# Altium integrated library SystemOnChip_001.IntLib: 5 symbols
Pins are listed as number, name and electrical type; pins without a type are passive.

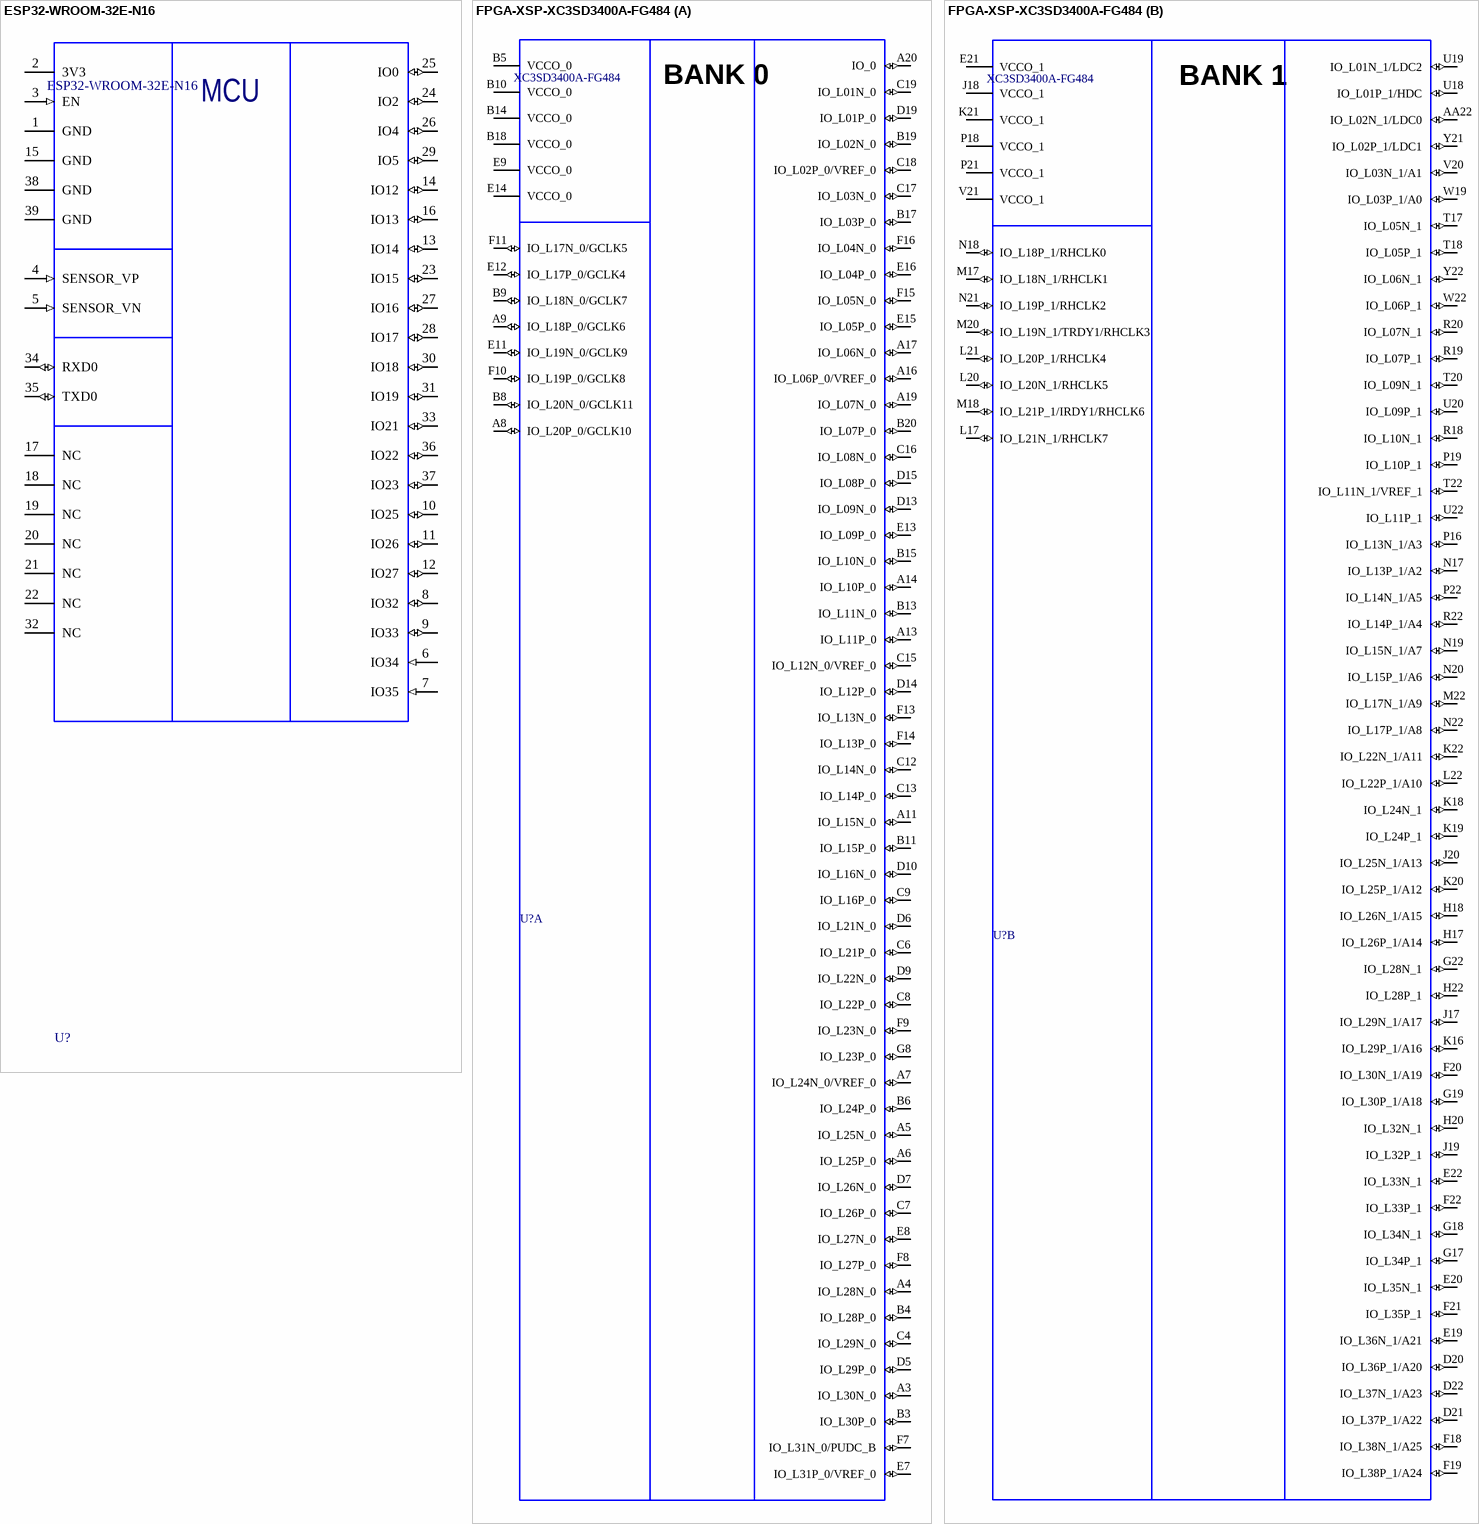
[diagram p0: symbols ESP32-WROOM-32E-N16 to FPGA-XSP-XC3SD3400A-FG484]

## ESP32-WROOM-32E-N16
designator U?
ComponentLink1Description: Manufacturer; ComponentLink2Description: Datasheet; ComponentLink3Description: Pin-out table; Family: Chip; ComponentLink1URL: *; ComponentLink2URL: *; ComponentLink3URL: http://www.xilinx.com/support/documentation/data_sheets/ds610.pdf; Value: ESP32-WROOM-32E-N16; PartNumber: *; Vender: *; ProductCode: *; StandartDoc: *; ВП Описание: *; Наименование: *; Описание: *
footprint ESP32-WROOM_woANT
pins: 1 GND (power), 2 3V3 (power), 3 EN (in), 4 SENSOR_VP (in), 5 SENSOR_VN (in), 6 IO34 (in), 7 IO35 (in), 8 IO32 (io), 9 IO33 (io), 10 IO25 (io), 11 IO26 (io), 12 IO27 (io), 13 IO14 (io), 14 IO12 (io), 15 GND (power), 16 IO13 (io), 17 NC, 18 NC, 19 NC, 20 NC, 21 NC, 22 NC, 23 IO15 (io), 24 IO2 (io), 25 IO0 (io), 26 IO4 (io), 27 IO16 (io), 28 IO17 (io), 29 IO5 (io), 30 IO18 (io), 31 IO19 (io), 32 NC, 33 IO21 (io), 34 RXD0 (io), 35 TXD0 (io), 36 IO22 (io), 37 IO23 (io), 38 GND (power), 39 GND (power)
text: MCU

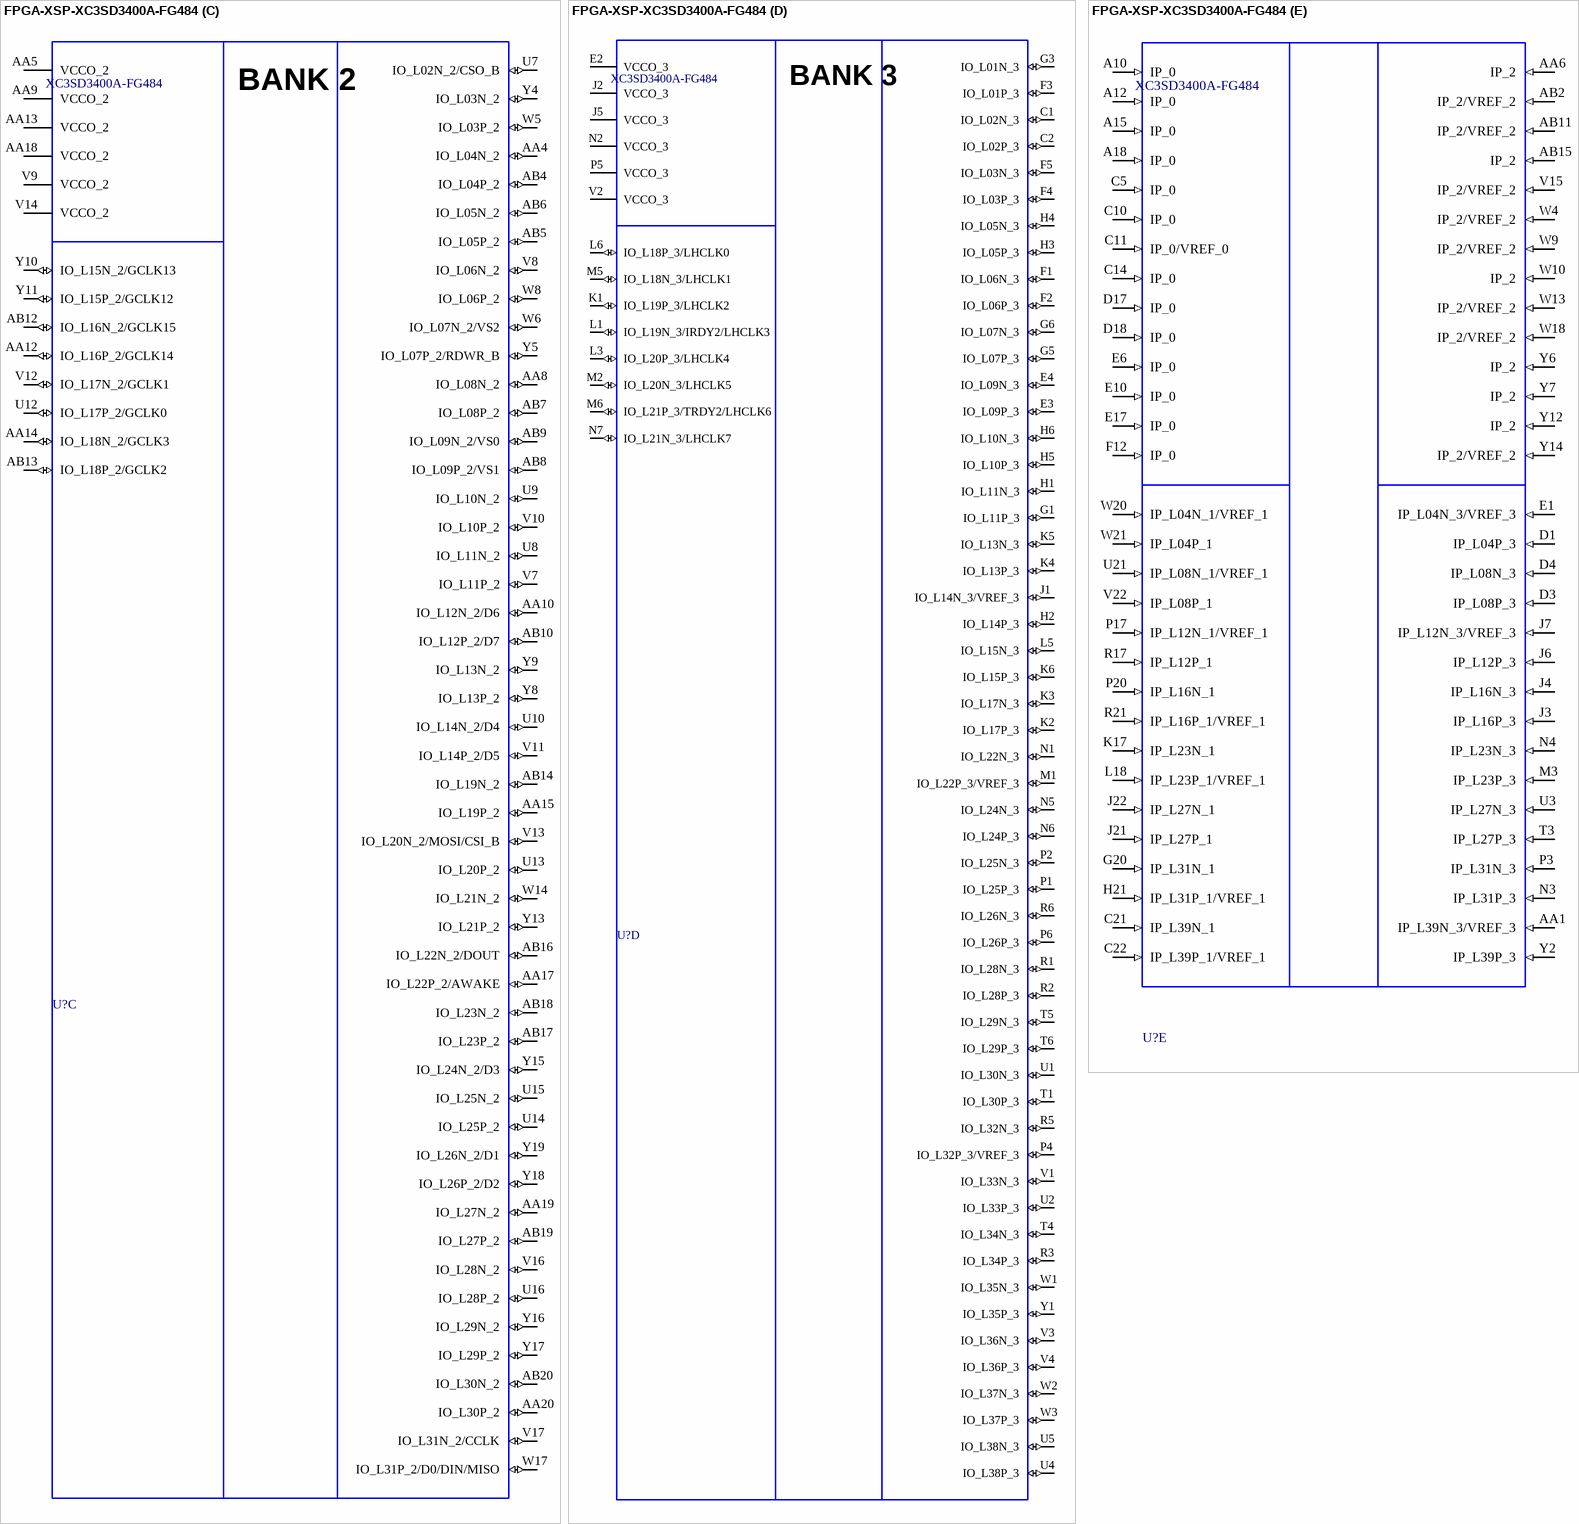
[diagram p1: symbol FPGA-XSP-XC3SD3400A-FG484]

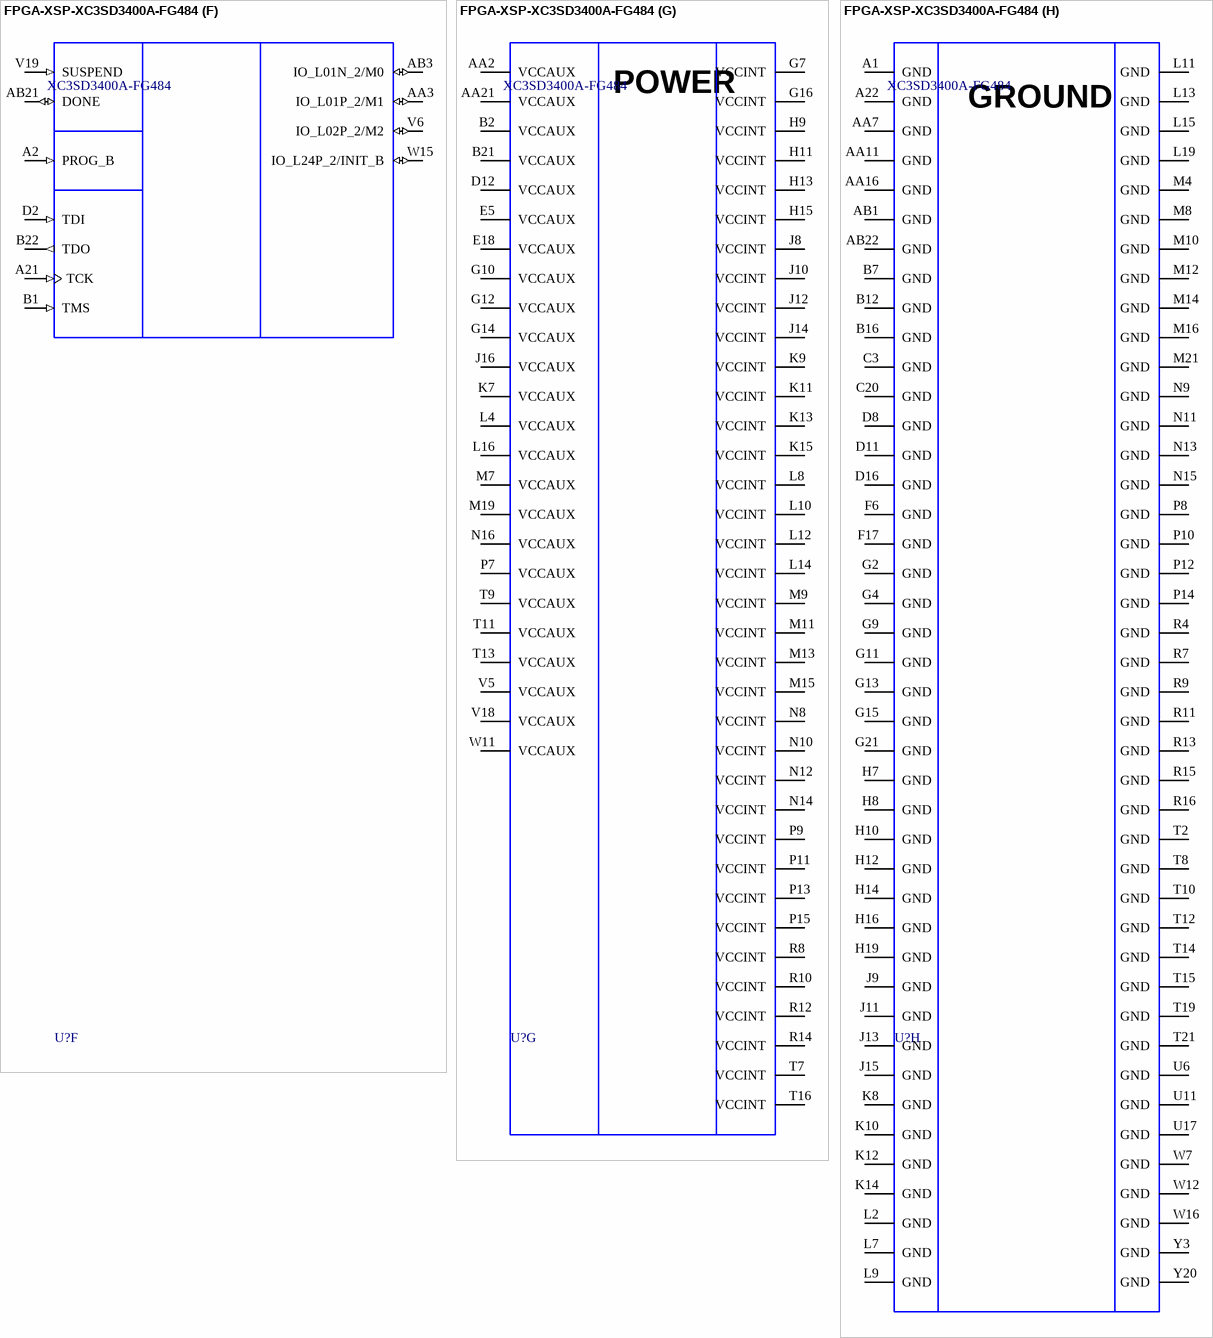
[diagram p2: symbol FPGA-XSP-XC3SD3400A-FG484]

## FPGA-XSP-XC3SD3400A-FG484
designator U?, comment XC3SD3400A-FG484
Spartan-3A DSP FPGA, 309 User I/Os, 484-Pin FBGA, Standard Performance, Industrial Grade; Manufacturer: Xilinx; Part: XC3SD3400A-4CSG484C; ComponentLink1Description: Manufacturer; ComponentLink2Description: Datasheet; ComponentLink3Description: Pin-out table; Family: Chip; ComponentLink1URL: *; ComponentLink2URL: *; ComponentLink3URL: http://www.xilinx.com/support/documentation/data_sheets/ds610.pdf; Manufacturer P/N: XC3SD3400A-4CSG484C; Value: XC3SD3400A-FG484; PartNumber: *; Vender: *; ProductCode: *; StandartDoc: *; ВП Описание: *; Наименование: *; Описание: *
footprint CS484 (BGA, 484-Leads, Body 19x19mm, Pitch 0.8mm)
part A pins: A3 IO_L30N_0 (io), A4 IO_L28N_0 (io), A5 IO_L25N_0 (io), A6 IO_L25P_0 (io), A7 IO_L24N_0/VREF_0 (io), A8 IO_L20P_0/GCLK10 (io), A9 IO_L18P_0/GCLK6 (io), A11 IO_L15N_0 (io), A13 IO_L11P_0 (io), A14 IO_L10P_0 (io), A16 IO_L06P_0/VREF_0 (io), A17 IO_L06N_0 (io), A19 IO_L07N_0 (io), A20 IO_0 (io), B3 IO_L30P_0 (io), B4 IO_L28P_0 (io), B5 VCCO_0 (power), B6 IO_L24P_0 (io), B8 IO_L20N_0/GCLK11 (io), B9 IO_L18N_0/GCLK7 (io), B10 VCCO_0 (power), B11 IO_L15P_0 (io), B13 IO_L11N_0 (io), B14 VCCO_0 (power), B15 IO_L10N_0 (io), B17 IO_L03P_0 (io), B18 VCCO_0 (power), B19 IO_L02N_0 (io), B20 IO_L07P_0 (io), C4 IO_L29N_0 (io), C6 IO_L21P_0 (io), C7 IO_L26P_0 (io), C8 IO_L22P_0 (io), C9 IO_L16P_0 (io), C12 IO_L14N_0 (io), C13 IO_L14P_0 (io), C15 IO_L12N_0/VREF_0 (io), C16 IO_L08N_0 (io), C17 IO_L03N_0 (io), C18 IO_L02P_0/VREF_0 (io), C19 IO_L01N_0 (io), D5 IO_L29P_0 (io), D6 IO_L21N_0 (io), D7 IO_L26N_0 (io), D9 IO_L22N_0 (io), D10 IO_L16N_0 (io), D13 IO_L09N_0 (io), D14 IO_L12P_0 (io), D15 IO_L08P_0 (io), D19 IO_L01P_0 (io), E7 IO_L31P_0/VREF_0 (io), E8 IO_L27N_0 (io), E9 VCCO_0 (power), E11 IO_L19N_0/GCLK9 (io), E12 IO_L17P_0/GCLK4 (io), E13 IO_L09P_0 (io), E14 VCCO_0 (power), E15 IO_L05P_0 (io), E16 IO_L04P_0 (io), F7 IO_L31N_0/PUDC_B (io), F8 IO_L27P_0 (io), F9 IO_L23N_0 (io), F10 IO_L19P_0/GCLK8 (io), F11 IO_L17N_0/GCLK5 (io), F13 IO_L13N_0 (io), F14 IO_L13P_0 (io), F15 IO_L05N_0 (io), F16 IO_L04N_0 (io), G8 IO_L23P_0 (io)
part B pins: AA22 IO_L02N_1/LDC0 (io), D20 IO_L36P_1/A20 (io), D21 IO_L37P_1/A22 (io), D22 IO_L37N_1/A23 (io), E19 IO_L36N_1/A21 (io), E20 IO_L35N_1 (io), E21 VCCO_1 (power), E22 IO_L33N_1 (io), F18 IO_L38N_1/A25 (io), F19 IO_L38P_1/A24 (io), F20 IO_L30N_1/A19 (io), F21 IO_L35P_1 (io), F22 IO_L33P_1 (io), G17 IO_L34P_1 (io), G18 IO_L34N_1 (io), G19 IO_L30P_1/A18 (io), G22 IO_L28N_1 (io), H17 IO_L26P_1/A14 (io), H18 IO_L26N_1/A15 (io), H20 IO_L32N_1 (io), H22 IO_L28P_1 (io), J17 IO_L29N_1/A17 (io), J18 VCCO_1 (power), J19 IO_L32P_1 (io), J20 IO_L25N_1/A13 (io), K16 IO_L29P_1/A16 (io), K18 IO_L24N_1 (io), K19 IO_L24P_1 (io), K20 IO_L25P_1/A12 (io), K21 VCCO_1 (power), K22 IO_L22N_1/A11 (io), L17 IO_L21N_1/RHCLK7 (io), L20 IO_L20N_1/RHCLK5 (io), L21 IO_L20P_1/RHCLK4 (io), L22 IO_L22P_1/A10 (io), M17 IO_L18N_1/RHCLK1 (io), M18 IO_L21P_1/IRDY1/RHCLK6 (io), M20 IO_L19N_1/TRDY1/RHCLK3 (io), M22 IO_L17N_1/A9 (io), N17 IO_L13P_1/A2 (io), N18 IO_L18P_1/RHCLK0 (io), N19 IO_L15N_1/A7 (io), N20 IO_L15P_1/A6 (io), N21 IO_L19P_1/RHCLK2 (io), N22 IO_L17P_1/A8 (io), P16 IO_L13N_1/A3 (io), P18 VCCO_1 (power), P19 IO_L10P_1 (io), P21 VCCO_1 (power), P22 IO_L14N_1/A5 (io), R18 IO_L10N_1 (io), R19 IO_L07P_1 (io), R20 IO_L07N_1 (io), R22 IO_L14P_1/A4 (io), T17 IO_L05N_1 (io), T18 IO_L05P_1 (io), T20 IO_L09N_1 (io), T22 IO_L11N_1/VREF_1 (io), U18 IO_L01P_1/HDC (io), U19 IO_L01N_1/LDC2 (io), U20 IO_L09P_1 (io), U22 IO_L11P_1 (io), V20 IO_L03N_1/A1 (io), V21 VCCO_1 (power), W19 IO_L03P_1/A0 (io), W22 IO_L06P_1 (io), Y21 IO_L02P_1/LDC1 (io), Y22 IO_L06N_1 (io)
part C pins: AA4 IO_L04N_2 (io), AA5 VCCO_2 (power), AA8 IO_L08N_2 (io), AA9 VCCO_2 (power), AA10 IO_L12N_2/D6 (io), AA12 IO_L16P_2/GCLK14 (io), AA13 VCCO_2 (power), AA14 IO_L18N_2/GCLK3 (io), AA15 IO_L19P_2 (io), AA17 IO_L22P_2/AWAKE (io), AA18 VCCO_2 (power), AA19 IO_L27N_2 (io), AA20 IO_L30P_2 (io), AB4 IO_L04P_2 (io), AB5 IO_L05P_2 (io), AB6 IO_L05N_2 (io), AB7 IO_L08P_2 (io), AB8 IO_L09P_2/VS1 (io), AB9 IO_L09N_2/VS0 (io), AB10 IO_L12P_2/D7 (io), AB12 IO_L16N_2/GCLK15 (io), AB13 IO_L18P_2/GCLK2 (io), AB14 IO_L19N_2 (io), AB16 IO_L22N_2/DOUT (io), AB17 IO_L23P_2 (io), AB18 IO_L23N_2 (io), AB19 IO_L27P_2 (io), AB20 IO_L30N_2 (io), U7 IO_L02N_2/CSO_B (io), U8 IO_L11N_2 (io), U9 IO_L10N_2 (io), U10 IO_L14N_2/D4 (io), U12 IO_L17P_2/GCLK0 (io), U13 IO_L20P_2 (io), U14 IO_L25P_2 (io), U15 IO_L25N_2 (io), U16 IO_L28P_2 (io), V7 IO_L11P_2 (io), V8 IO_L06N_2 (io), V9 VCCO_2 (power), V10 IO_L10P_2 (io), V11 IO_L14P_2/D5 (io), V12 IO_L17N_2/GCLK1 (io), V13 IO_L20N_2/MOSI/CSI_B (io), V14 VCCO_2 (power), V16 IO_L28N_2 (io), V17 IO_L31N_2/CCLK (io), W5 IO_L03P_2 (io), W6 IO_L07N_2/VS2 (io), W8 IO_L06P_2 (io), W14 IO_L21N_2 (io), W17 IO_L31P_2/D0/DIN/MISO (io), Y4 IO_L03N_2 (io), Y5 IO_L07P_2/RDWR_B (io), Y8 IO_L13P_2 (io), Y9 IO_L13N_2 (io), Y10 IO_L15N_2/GCLK13 (io), Y11 IO_L15P_2/GCLK12 (io), Y13 IO_L21P_2 (io), Y15 IO_L24N_2/D3 (io), Y16 IO_L29N_2 (io), Y17 IO_L29P_2 (io), Y18 IO_L26P_2/D2 (io), Y19 IO_L26N_2/D1 (io)
part D pins: C1 IO_L02N_3 (io), C2 IO_L02P_3 (io), E2 VCCO_3 (power), E3 IO_L09P_3 (io), E4 IO_L09N_3 (io), F1 IO_L06N_3 (io), F2 IO_L06P_3 (io), F3 IO_L01P_3 (io), F4 IO_L03P_3 (io), F5 IO_L03N_3 (io), G1 IO_L11P_3 (io), G3 IO_L01N_3 (io), G5 IO_L07P_3 (io), G6 IO_L07N_3 (io), H1 IO_L11N_3 (io), H2 IO_L14P_3 (io), H3 IO_L05P_3 (io), H4 IO_L05N_3 (io), H5 IO_L10P_3 (io), H6 IO_L10N_3 (io), J1 IO_L14N_3/VREF_3 (io), J2 VCCO_3 (power), J5 VCCO_3 (power), K1 IO_L19P_3/LHCLK2 (io), K2 IO_L17P_3 (io), K3 IO_L17N_3 (io), K4 IO_L13P_3 (io), K5 IO_L13N_3 (io), K6 IO_L15P_3 (io), L1 IO_L19N_3/IRDY2/LHCLK3 (io), L3 IO_L20P_3/LHCLK4 (io), L5 IO_L15N_3 (io), L6 IO_L18P_3/LHCLK0 (io), M1 IO_L22P_3/VREF_3 (io), M2 IO_L20N_3/LHCLK5 (io), M5 IO_L18N_3/LHCLK1 (io), M6 IO_L21P_3/TRDY2/LHCLK6 (io), N1 IO_L22N_3 (io), N2 VCCO_3 (power), N5 IO_L24N_3 (io), N6 IO_L24P_3 (io), N7 IO_L21N_3/LHCLK7 (io), P1 IO_L25P_3 (io), P2 IO_L25N_3 (io), P4 IO_L32P_3/VREF_3 (io), P5 VCCO_3 (power), P6 IO_L26P_3 (io), R1 IO_L28N_3 (io), R2 IO_L28P_3 (io), R3 IO_L34P_3 (io), R5 IO_L32N_3 (io), R6 IO_L26N_3 (io), T1 IO_L30P_3 (io), T4 IO_L34N_3 (io), T5 IO_L29N_3 (io), T6 IO_L29P_3 (io), U1 IO_L30N_3 (io), U2 IO_L33P_3 (io), U4 IO_L38P_3 (io), U5 IO_L38N_3 (io), V1 IO_L33N_3 (io), V2 VCCO_3 (power), V3 IO_L36N_3 (io), V4 IO_L36P_3 (io), W1 IO_L35N_3 (io), W2 IO_L37N_3 (io), W3 IO_L37P_3 (io), Y1 IO_L35P_3 (io)
part E pins: A10 IP_0 (in), A12 IP_0 (in), A15 IP_0 (in), A18 IP_0 (in), AA1 IP_L39N_3/VREF_3 (in), AA6 IP_2 (in), AB2 IP_2/VREF_2 (in), AB11 IP_2/VREF_2 (in), AB15 IP_2 (in), C5 IP_0 (in), C10 IP_0 (in), C11 IP_0/VREF_0 (in), C14 IP_0 (in), C21 IP_L39N_1 (in), C22 IP_L39P_1/VREF_1 (in), D1 IP_L04P_3 (in), D3 IP_L08P_3 (in), D4 IP_L08N_3 (in), D17 IP_0 (in), D18 IP_0 (in), E1 IP_L04N_3/VREF_3 (in), E6 IP_0 (in), E10 IP_0 (in), E17 IP_0 (in), F12 IP_0 (in), G20 IP_L31N_1 (in), H21 IP_L31P_1/VREF_1 (in), J3 IP_L16P_3 (in), J4 IP_L16N_3 (in), J6 IP_L12P_3 (in), J7 IP_L12N_3/VREF_3 (in), J21 IP_L27P_1 (in), J22 IP_L27N_1 (in), K17 IP_L23N_1 (in), L18 IP_L23P_1/VREF_1 (in), M3 IP_L23P_3 (in), N3 IP_L31P_3 (in), N4 IP_L23N_3 (in), P3 IP_L31N_3 (in), P17 IP_L12N_1/VREF_1 (in), P20 IP_L16N_1 (in), R17 IP_L12P_1 (in), R21 IP_L16P_1/VREF_1 (in), T3 IP_L27P_3 (in), U3 IP_L27N_3 (in), U21 IP_L08N_1/VREF_1 (in), V15 IP_2/VREF_2 (in), V22 IP_L08P_1 (in), W4 IP_2/VREF_2 (in), W9 IP_2/VREF_2 (in), W10 IP_2 (in), W13 IP_2/VREF_2 (in), W18 IP_2/VREF_2 (in), W20 IP_L04N_1/VREF_1 (in), W21 IP_L04P_1 (in), Y2 IP_L39P_3 (in), Y6 IP_2 (in), Y7 IP_2 (in), Y12 IP_2 (in), Y14 IP_2/VREF_2 (in)
part F pins: A2 PROG_B (in), A21 TCK (in), AA3 IO_L01P_2/M1 (io), AB3 IO_L01N_2/M0 (io), AB21 DONE (io), B1 TMS (in), B22 TDO (out), D2 TDI (in), V6 IO_L02P_2/M2 (io), V19 SUSPEND (in), W15 IO_L24P_2/INIT_B (io)
part G pins: AA2 VCCAUX (power), AA21 VCCAUX (power), B2 VCCAUX (power), B21 VCCAUX (power), D12 VCCAUX (power), E5 VCCAUX (power), E18 VCCAUX (power), G7 VCCINT (power), G10 VCCAUX (power), G12 VCCAUX (power), G14 VCCAUX (power), G16 VCCINT (power), H9 VCCINT (power), H11 VCCINT (power), H13 VCCINT (power), H15 VCCINT (power), J8 VCCINT (power), J10 VCCINT (power), J12 VCCINT (power), J14 VCCINT (power), J16 VCCAUX (power), K7 VCCAUX (power), K9 VCCINT (power), K11 VCCINT (power), K13 VCCINT (power), K15 VCCINT (power), L4 VCCAUX (power), L8 VCCINT (power), L10 VCCINT (power), L12 VCCINT (power), L14 VCCINT (power), L16 VCCAUX (power), M7 VCCAUX (power), M9 VCCINT (power), M11 VCCINT (power), M13 VCCINT (power), M15 VCCINT (power), M19 VCCAUX (power), N8 VCCINT (power), N10 VCCINT (power), N12 VCCINT (power), N14 VCCINT (power), N16 VCCAUX (power), P7 VCCAUX (power), P9 VCCINT (power), P11 VCCINT (power), P13 VCCINT (power), P15 VCCINT (power), R8 VCCINT (power), R10 VCCINT (power), R12 VCCINT (power), R14 VCCINT (power), T7 VCCINT (power), T9 VCCAUX (power), T11 VCCAUX (power), T13 VCCAUX (power), T16 VCCINT (power), V5 VCCAUX (power), V18 VCCAUX (power), W11 VCCAUX (power)
part H pins: A1 GND (power), A22 GND (power), AA7 GND (power), AA11 GND (power), AA16 GND (power), AB1 GND (power), AB22 GND (power), B7 GND (power), B12 GND (power), B16 GND (power), C3 GND (power), C20 GND (power), D8 GND (power), D11 GND (power), D16 GND (power), F6 GND (power), F17 GND (power), G2 GND (power), G4 GND (power), G9 GND (power), G11 GND (power), G13 GND (power), G15 GND (power), G21 GND (power), H7 GND (power), H8 GND (power), H10 GND (power), H12 GND (power), H14 GND (power), H16 GND (power), H19 GND (power), J9 GND (power), J11 GND (power), J13 GND (power), J15 GND (power), K8 GND (power), K10 GND (power), K12 GND (power), K14 GND (power), L2 GND (power), L7 GND (power), L9 GND (power), L11 GND (power), L13 GND (power), L15 GND (power), L19 GND (power), M4 GND (power), M8 GND (power), M10 GND (power), M12 GND (power), M14 GND (power), M16 GND (power), M21 GND (power), N9 GND (power), N11 GND (power), N13 GND (power), N15 GND (power), P8 GND (power), P10 GND (power), P12 GND (power), P14 GND (power), R4 GND (power), R7 GND (power), R9 GND (power), R11 GND (power), R13 GND (power), R15 GND (power), R16 GND (power), T2 GND (power), T8 GND (power), T10 GND (power), T12 GND (power), T14 GND (power), T15 GND (power), T19 GND (power), T21 GND (power), U6 GND (power), U11 GND (power), U17 GND (power), W7 GND (power), W12 GND (power), W16 GND (power), Y3 GND (power), Y20 GND (power)
part A text: BANK 0
part B text: BANK 1
part C text: BANK 2
part D text: BANK 3
part G text: POWER
part H text: GROUND

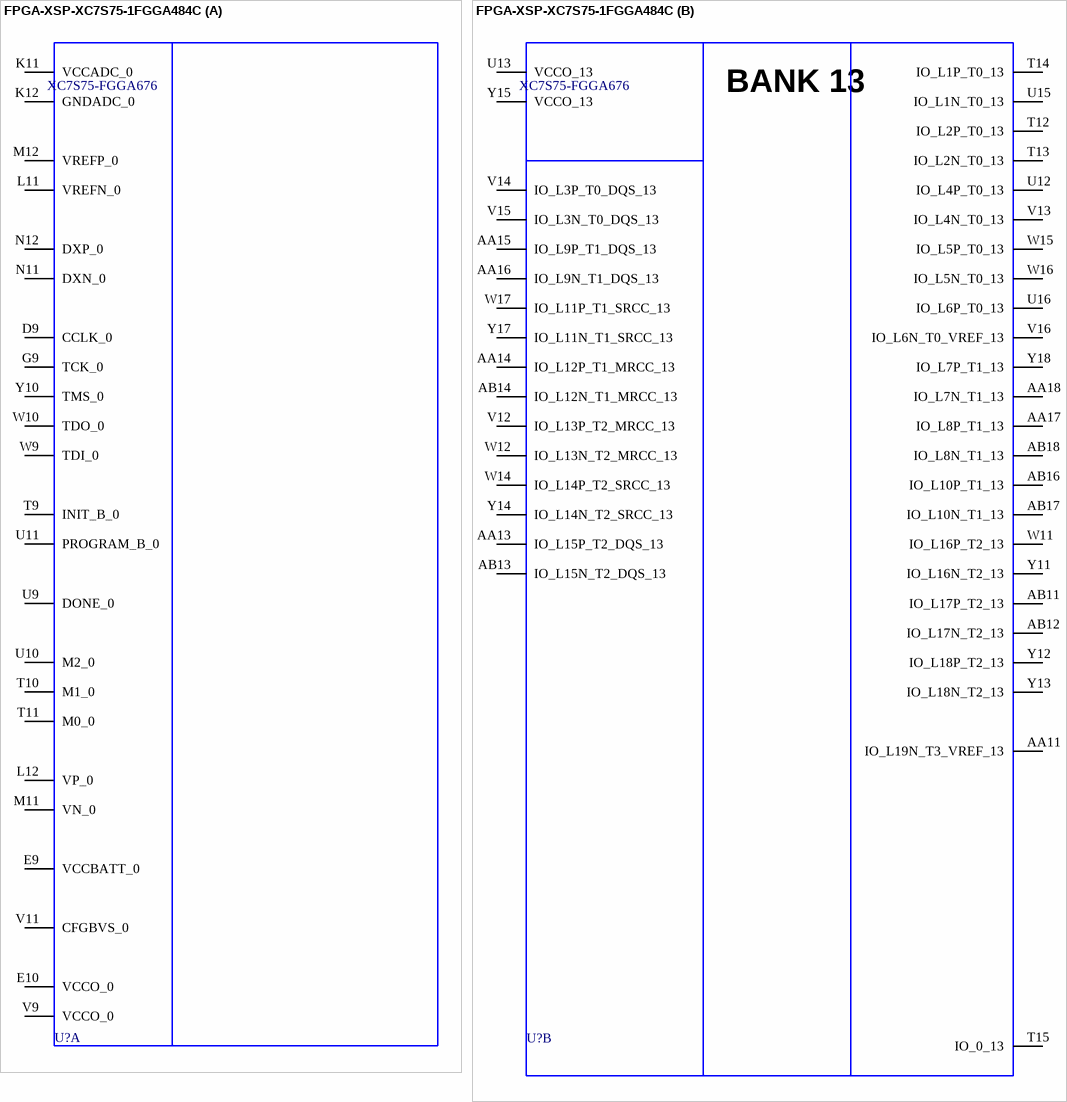
[diagram p3: symbol FPGA-XSP-XC7S75-1FGGA484C]

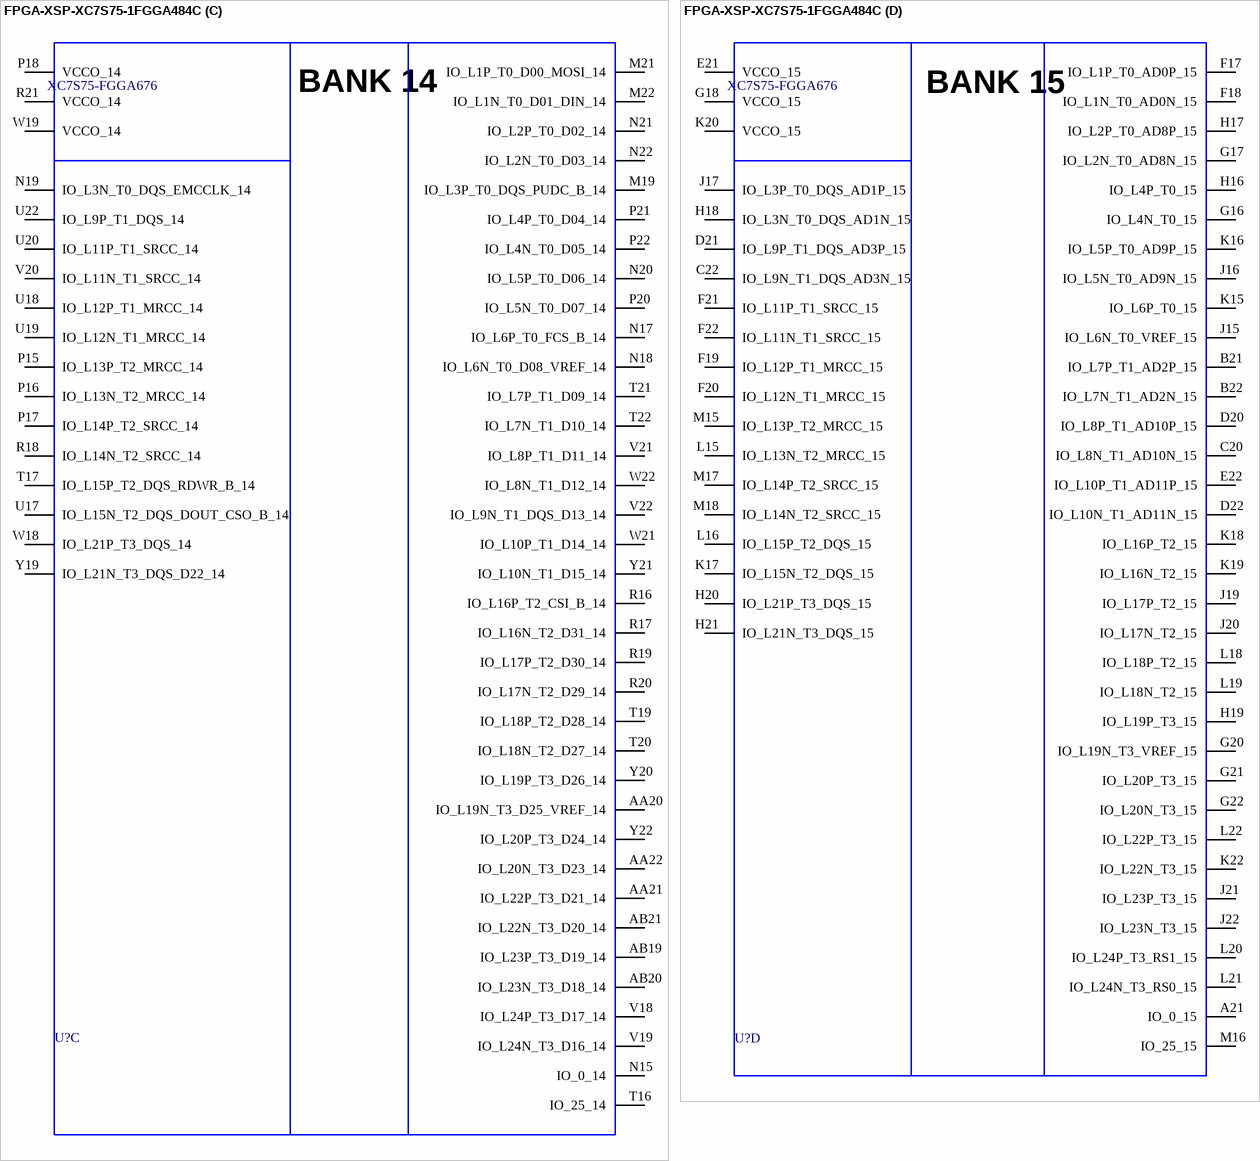
[diagram p4: symbol FPGA-XSP-XC7S75-1FGGA484C]

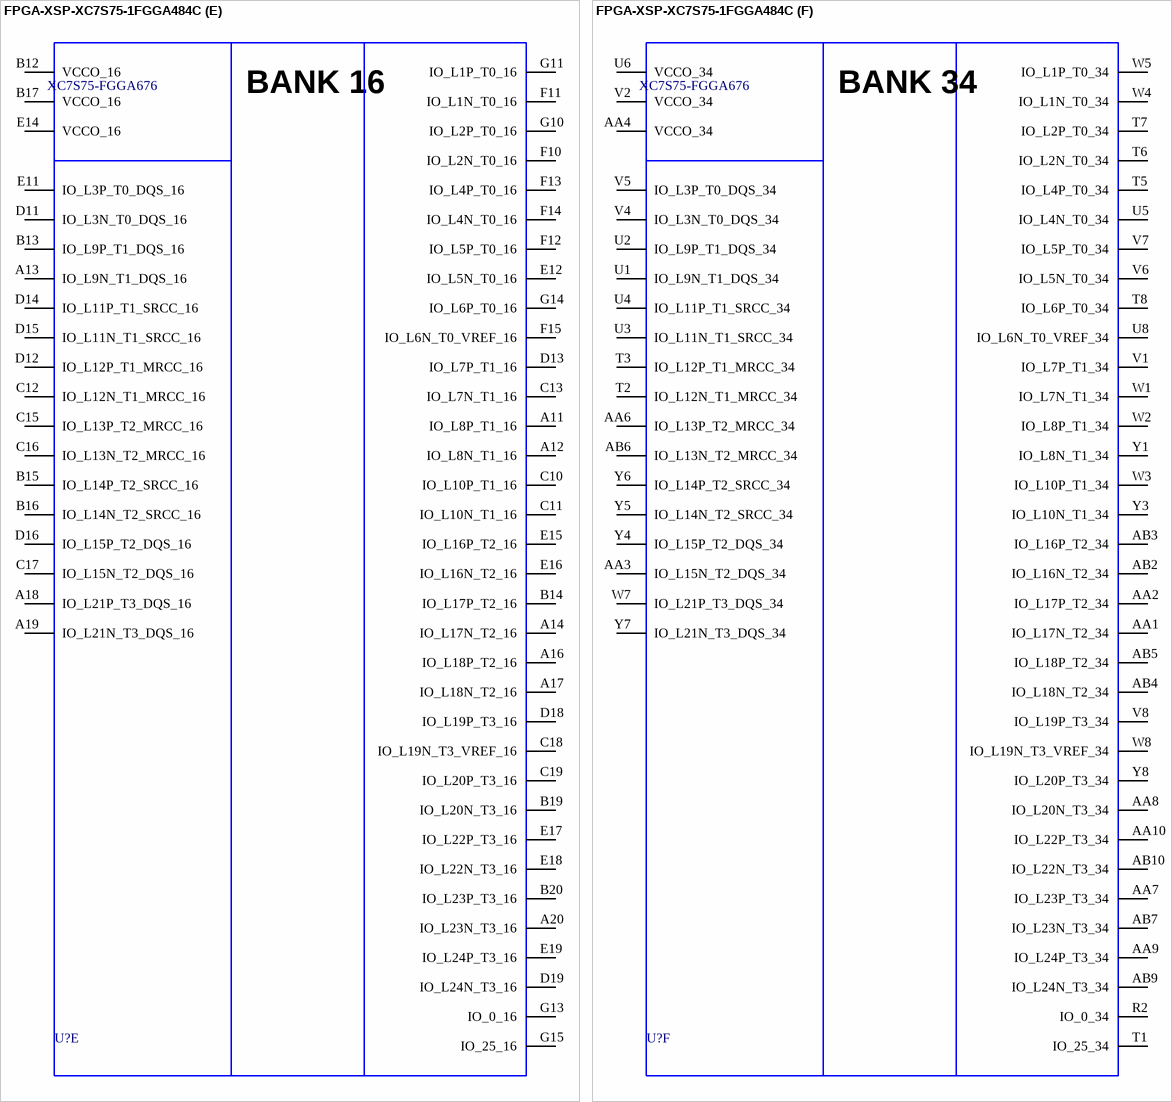
[diagram p5: symbol FPGA-XSP-XC7S75-1FGGA484C]

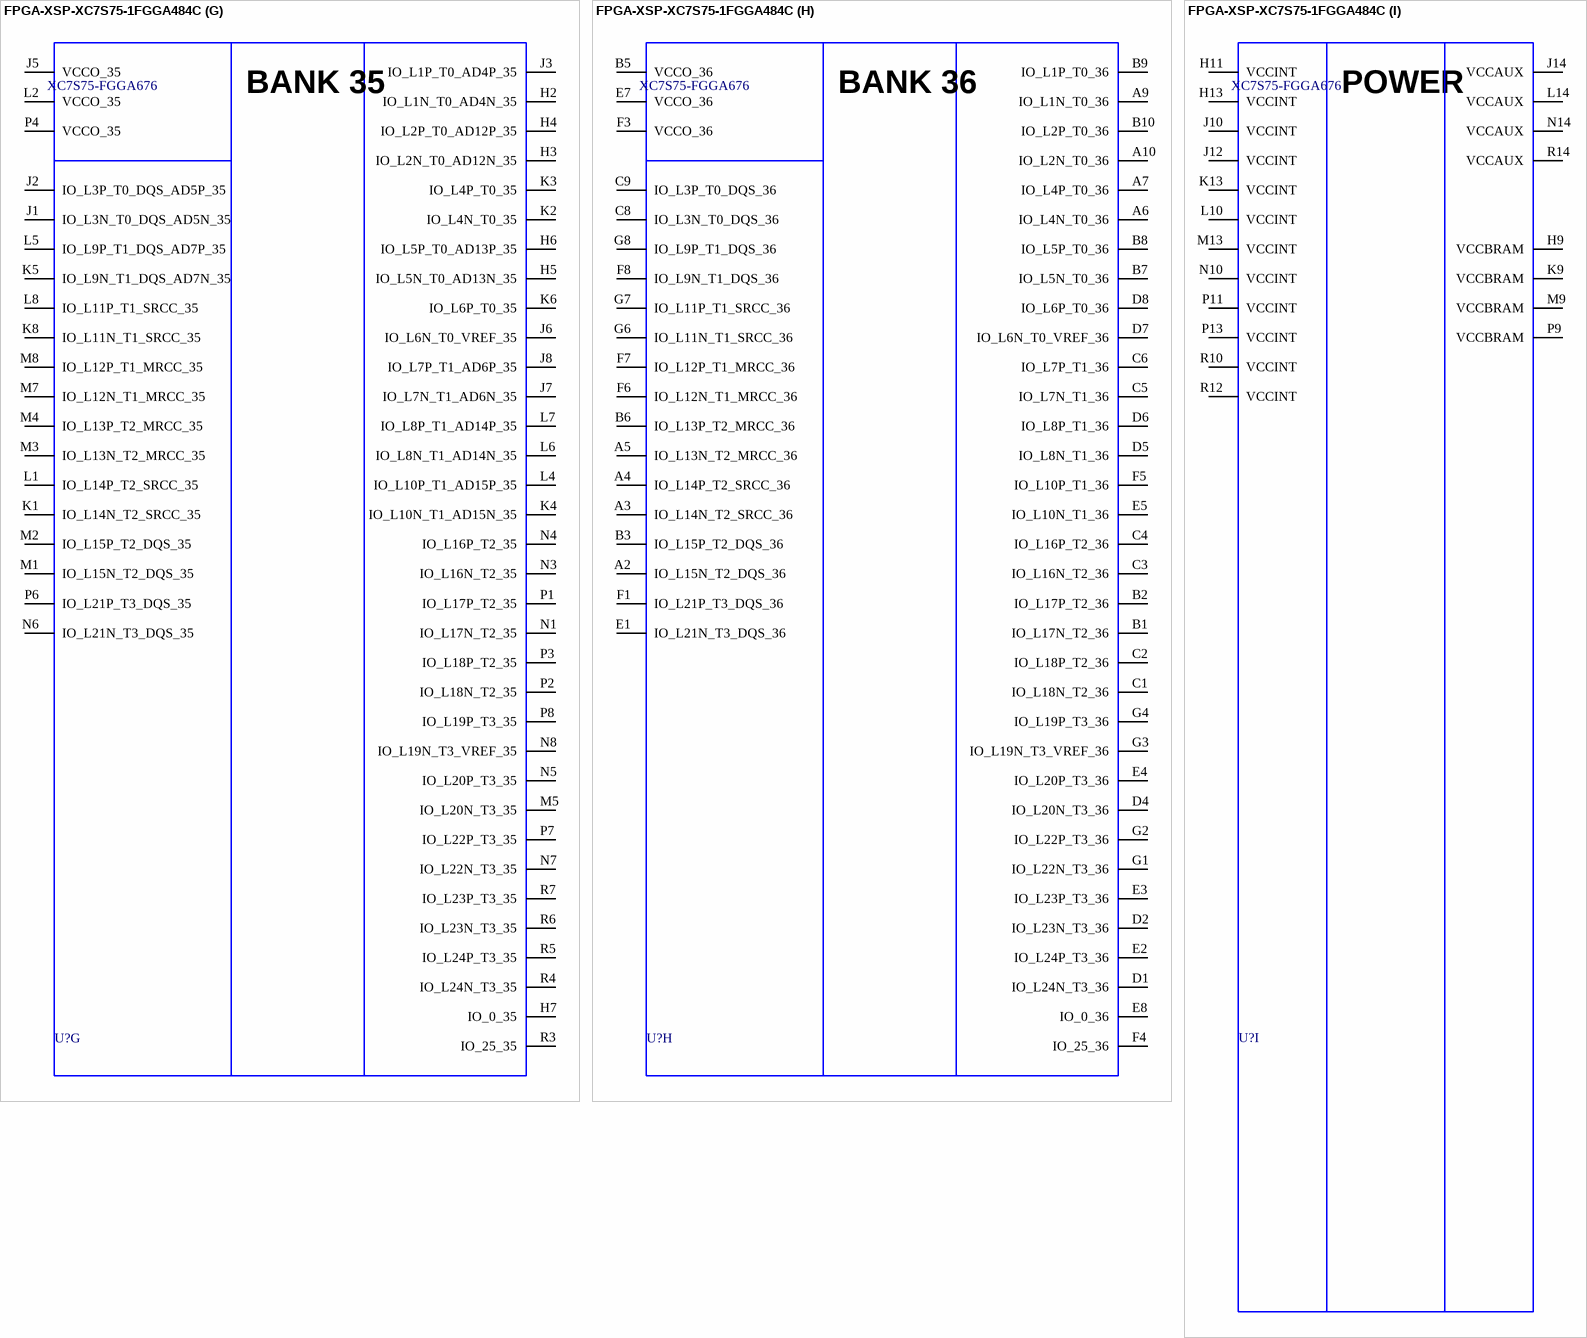
[diagram p6: symbol FPGA-XSP-XC7S75-1FGGA484C]

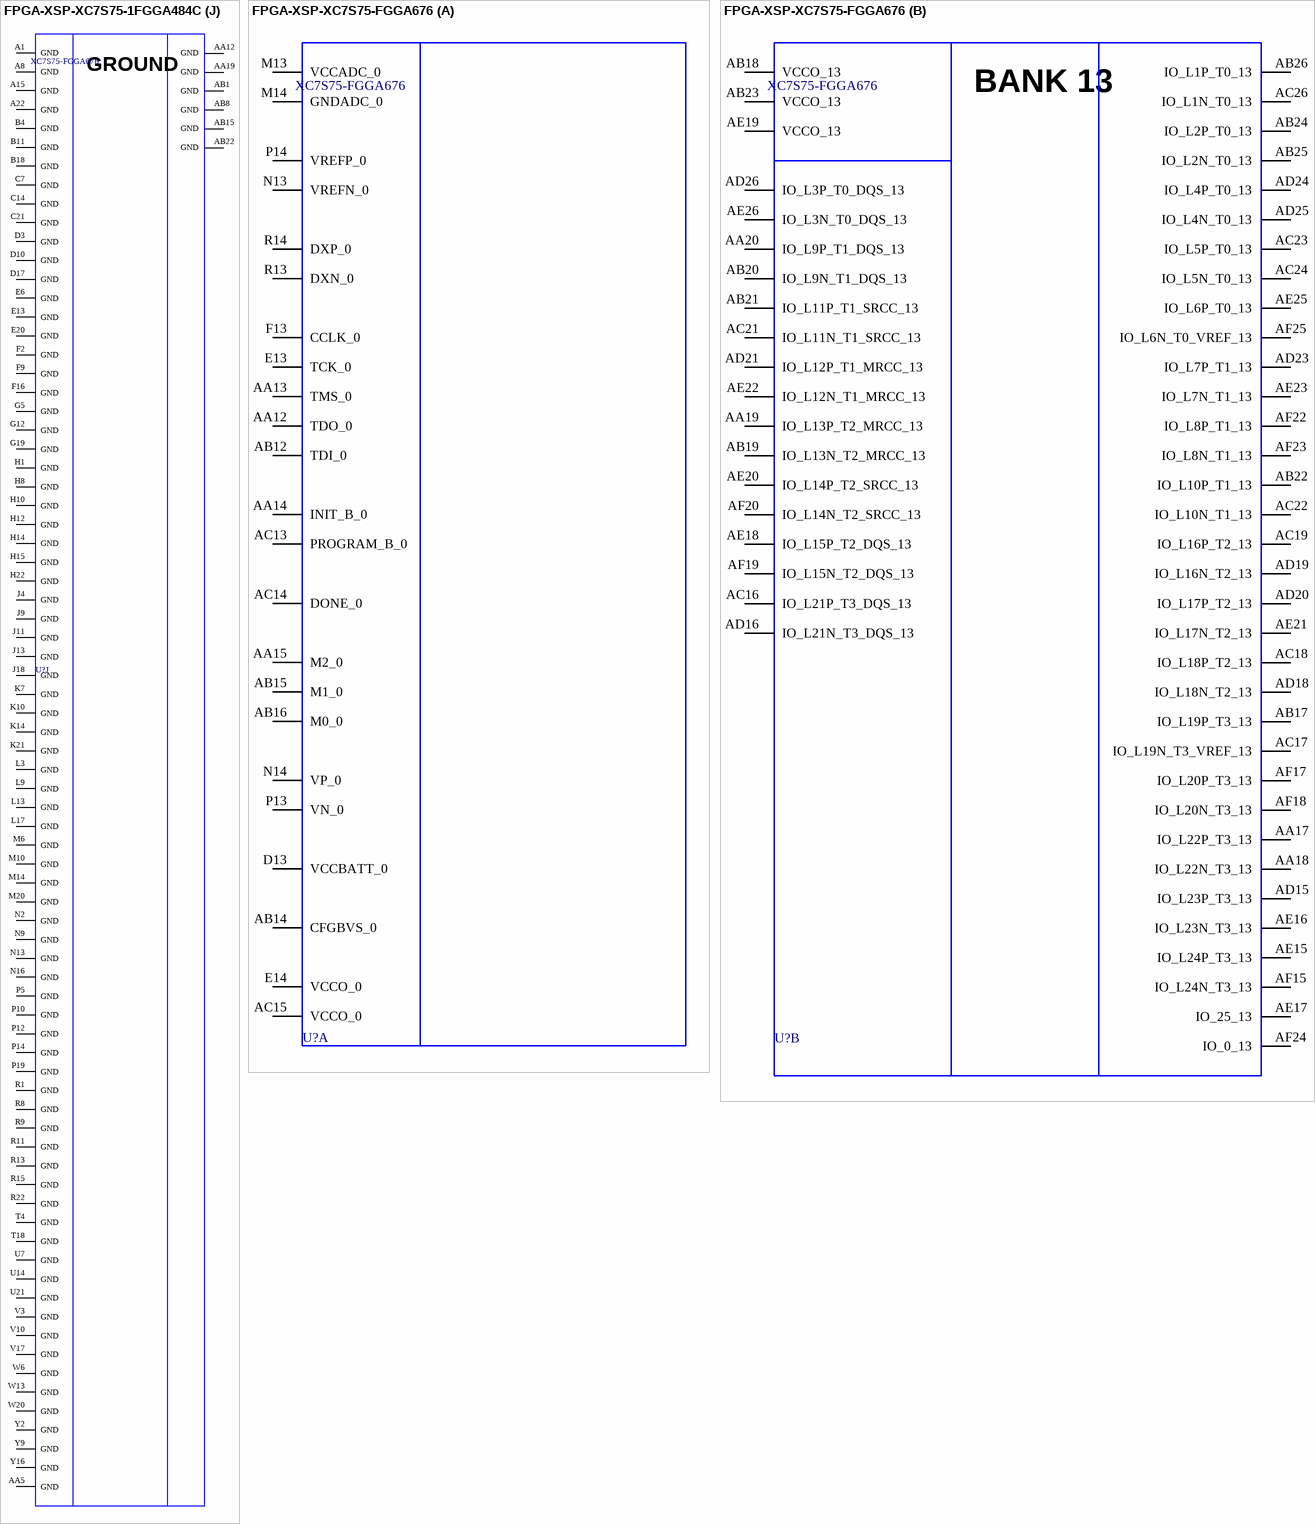
[diagram p7: symbols FPGA-XSP-XC7S75-1FGGA484C to FPGA-XSP-XC7S75-FGGA676]

## FPGA-XSP-XC7S75-1FGGA484C
designator U?, comment XC7S75-FGGA676
Spartan-7, 400 User I/Os, 676-Ball Fine-Pitch BGA, Pb-Free; Manufacturer: Xilinx; Part: XC7S75-1FGGA676C; ComponentLink1Description: Manufacturer; ComponentLink2Description: Datasheet; ComponentLink3Description: Pin-out table; Family: Chip; ComponentLink1URL: *; ComponentLink2URL: *; ComponentLink3URL: http://www.xilinx.com/support/documentation/data_sheets/ds610.pdf; Manufacturer P/N: XC7S75-1FGGA676C; Value: XC7S75-FGGA676; PartNumber: *; Vender: *; ProductCode: *; StandartDoc: *; ВП Описание: *; Наименование: *; Описание: *
footprint CS484 (BGA, 484-Leads, Body 19x19mm, Pitch 0.8mm)
part A pins: D9 CCLK_0, E9 VCCBATT_0, E10 VCCO_0, G9 TCK_0, K11 VCCADC_0, K12 GNDADC_0, L11 VREFN_0, L12 VP_0, M11 VN_0, M12 VREFP_0, N11 DXN_0, N12 DXP_0, T9 INIT_B_0, T10 M1_0, T11 M0_0, U9 DONE_0, U10 M2_0, U11 PROGRAM_B_0, V9 VCCO_0, V11 CFGBVS_0, W9 TDI_0, W10 TDO_0, Y10 TMS_0
part B pins: AA11 IO_L19N_T3_VREF_13, AA13 IO_L15P_T2_DQS_13, AA14 IO_L12P_T1_MRCC_13, AA15 IO_L9P_T1_DQS_13, AA16 IO_L9N_T1_DQS_13, AA17 IO_L8P_T1_13, AA18 IO_L7N_T1_13, AB11 IO_L17P_T2_13, AB12 IO_L17N_T2_13, AB13 IO_L15N_T2_DQS_13, AB14 IO_L12N_T1_MRCC_13, AB16 IO_L10P_T1_13, AB17 IO_L10N_T1_13, AB18 IO_L8N_T1_13, T12 IO_L2P_T0_13, T13 IO_L2N_T0_13, T14 IO_L1P_T0_13, T15 IO_0_13, U12 IO_L4P_T0_13, U13 VCCO_13, U15 IO_L1N_T0_13, U16 IO_L6P_T0_13, V12 IO_L13P_T2_MRCC_13, V13 IO_L4N_T0_13, V14 IO_L3P_T0_DQS_13, V15 IO_L3N_T0_DQS_13, V16 IO_L6N_T0_VREF_13, W11 IO_L16P_T2_13, W12 IO_L13N_T2_MRCC_13, W14 IO_L14P_T2_SRCC_13, W15 IO_L5P_T0_13, W16 IO_L5N_T0_13, W17 IO_L11P_T1_SRCC_13, Y11 IO_L16N_T2_13, Y12 IO_L18P_T2_13, Y13 IO_L18N_T2_13, Y14 IO_L14N_T2_SRCC_13, Y15 VCCO_13, Y17 IO_L11N_T1_SRCC_13, Y18 IO_L7P_T1_13
part C pins: AA20 IO_L19N_T3_D25_VREF_14, AA21 IO_L22P_T3_D21_14, AA22 IO_L20N_T3_D23_14, AB19 IO_L23P_T3_D19_14, AB20 IO_L23N_T3_D18_14, AB21 IO_L22N_T3_D20_14, M19 IO_L3P_T0_DQS_PUDC_B_14, M21 IO_L1P_T0_D00_MOSI_14, M22 IO_L1N_T0_D01_DIN_14, N15 IO_0_14, N17 IO_L6P_T0_FCS_B_14, N18 IO_L6N_T0_D08_VREF_14, N19 IO_L3N_T0_DQS_EMCCLK_14, N20 IO_L5P_T0_D06_14, N21 IO_L2P_T0_D02_14, N22 IO_L2N_T0_D03_14, P15 IO_L13P_T2_MRCC_14, P16 IO_L13N_T2_MRCC_14, P17 IO_L14P_T2_SRCC_14, P18 VCCO_14, P20 IO_L5N_T0_D07_14, P21 IO_L4P_T0_D04_14, P22 IO_L4N_T0_D05_14, R16 IO_L16P_T2_CSI_B_14, R17 IO_L16N_T2_D31_14, R18 IO_L14N_T2_SRCC_14, R19 IO_L17P_T2_D30_14, R20 IO_L17N_T2_D29_14, R21 VCCO_14, T16 IO_25_14, T17 IO_L15P_T2_DQS_RDWR_B_14, T19 IO_L18P_T2_D28_14, T20 IO_L18N_T2_D27_14, T21 IO_L7P_T1_D09_14, T22 IO_L7N_T1_D10_14, U17 IO_L15N_T2_DQS_DOUT_CSO_B_14, U18 IO_L12P_T1_MRCC_14, U19 IO_L12N_T1_MRCC_14, U20 IO_L11P_T1_SRCC_14, U22 IO_L9P_T1_DQS_14, V18 IO_L24P_T3_D17_14, V19 IO_L24N_T3_D16_14, V20 IO_L11N_T1_SRCC_14, V21 IO_L8P_T1_D11_14, V22 IO_L9N_T1_DQS_D13_14, W18 IO_L21P_T3_DQS_14, W19 VCCO_14, W21 IO_L10P_T1_D14_14, W22 IO_L8N_T1_D12_14, Y19 IO_L21N_T3_DQS_D22_14, Y20 IO_L19P_T3_D26_14, Y21 IO_L10N_T1_D15_14, Y22 IO_L20P_T3_D24_14
part D pins: A21 IO_0_15, B21 IO_L7P_T1_AD2P_15, B22 IO_L7N_T1_AD2N_15, C20 IO_L8N_T1_AD10N_15, C22 IO_L9N_T1_DQS_AD3N_15, D20 IO_L8P_T1_AD10P_15, D21 IO_L9P_T1_DQS_AD3P_15, D22 IO_L10N_T1_AD11N_15, E21 VCCO_15, E22 IO_L10P_T1_AD11P_15, F17 IO_L1P_T0_AD0P_15, F18 IO_L1N_T0_AD0N_15, F19 IO_L12P_T1_MRCC_15, F20 IO_L12N_T1_MRCC_15, F21 IO_L11P_T1_SRCC_15, F22 IO_L11N_T1_SRCC_15, G16 IO_L4N_T0_15, G17 IO_L2N_T0_AD8N_15, G18 VCCO_15, G20 IO_L19N_T3_VREF_15, G21 IO_L20P_T3_15, G22 IO_L20N_T3_15, H16 IO_L4P_T0_15, H17 IO_L2P_T0_AD8P_15, H18 IO_L3N_T0_DQS_AD1N_15, H19 IO_L19P_T3_15, H20 IO_L21P_T3_DQS_15, H21 IO_L21N_T3_DQS_15, J15 IO_L6N_T0_VREF_15, J16 IO_L5N_T0_AD9N_15, J17 IO_L3P_T0_DQS_AD1P_15, J19 IO_L17P_T2_15, J20 IO_L17N_T2_15, J21 IO_L23P_T3_15, J22 IO_L23N_T3_15, K15 IO_L6P_T0_15, K16 IO_L5P_T0_AD9P_15, K17 IO_L15N_T2_DQS_15, K18 IO_L16P_T2_15, K19 IO_L16N_T2_15, K20 VCCO_15, K22 IO_L22N_T3_15, L15 IO_L13N_T2_MRCC_15, L16 IO_L15P_T2_DQS_15, L18 IO_L18P_T2_15, L19 IO_L18N_T2_15, L20 IO_L24P_T3_RS1_15, L21 IO_L24N_T3_RS0_15, L22 IO_L22P_T3_15, M15 IO_L13P_T2_MRCC_15, M16 IO_25_15, M17 IO_L14P_T2_SRCC_15, M18 IO_L14N_T2_SRCC_15
part E pins: A11 IO_L8P_T1_16, A12 IO_L8N_T1_16, A13 IO_L9N_T1_DQS_16, A14 IO_L17N_T2_16, A16 IO_L18P_T2_16, A17 IO_L18N_T2_16, A18 IO_L21P_T3_DQS_16, A19 IO_L21N_T3_DQS_16, A20 IO_L23N_T3_16, B12 VCCO_16, B13 IO_L9P_T1_DQS_16, B14 IO_L17P_T2_16, B15 IO_L14P_T2_SRCC_16, B16 IO_L14N_T2_SRCC_16, B17 VCCO_16, B19 IO_L20N_T3_16, B20 IO_L23P_T3_16, C10 IO_L10P_T1_16, C11 IO_L10N_T1_16, C12 IO_L12N_T1_MRCC_16, C13 IO_L7N_T1_16, C15 IO_L13P_T2_MRCC_16, C16 IO_L13N_T2_MRCC_16, C17 IO_L15N_T2_DQS_16, C18 IO_L19N_T3_VREF_16, C19 IO_L20P_T3_16, D11 IO_L3N_T0_DQS_16, D12 IO_L12P_T1_MRCC_16, D13 IO_L7P_T1_16, D14 IO_L11P_T1_SRCC_16, D15 IO_L11N_T1_SRCC_16, D16 IO_L15P_T2_DQS_16, D18 IO_L19P_T3_16, D19 IO_L24N_T3_16, E11 IO_L3P_T0_DQS_16, E12 IO_L5N_T0_16, E14 VCCO_16, E15 IO_L16P_T2_16, E16 IO_L16N_T2_16, E17 IO_L22P_T3_16, E18 IO_L22N_T3_16, E19 IO_L24P_T3_16, F10 IO_L2N_T0_16, F11 IO_L1N_T0_16, F12 IO_L5P_T0_16, F13 IO_L4P_T0_16, F14 IO_L4N_T0_16, F15 IO_L6N_T0_VREF_16, G10 IO_L2P_T0_16, G11 IO_L1P_T0_16, G13 IO_0_16, G14 IO_L6P_T0_16, G15 IO_25_16
part F pins: AA1 IO_L17N_T2_34, AA2 IO_L17P_T2_34, AA3 IO_L15N_T2_DQS_34, AA4 VCCO_34, AA6 IO_L13P_T2_MRCC_34, AA7 IO_L23P_T3_34, AA8 IO_L20N_T3_34, AA9 IO_L24P_T3_34, AA10 IO_L22P_T3_34, AB2 IO_L16N_T2_34, AB3 IO_L16P_T2_34, AB4 IO_L18N_T2_34, AB5 IO_L18P_T2_34, AB6 IO_L13N_T2_MRCC_34, AB7 IO_L23N_T3_34, AB9 IO_L24N_T3_34, AB10 IO_L22N_T3_34, R2 IO_0_34, T1 IO_25_34, T2 IO_L12N_T1_MRCC_34, T3 IO_L12P_T1_MRCC_34, T5 IO_L4P_T0_34, T6 IO_L2N_T0_34, T7 IO_L2P_T0_34, T8 IO_L6P_T0_34, U1 IO_L9N_T1_DQS_34, U2 IO_L9P_T1_DQS_34, U3 IO_L11N_T1_SRCC_34, U4 IO_L11P_T1_SRCC_34, U5 IO_L4N_T0_34, U6 VCCO_34, U8 IO_L6N_T0_VREF_34, V1 IO_L7P_T1_34, V2 VCCO_34, V4 IO_L3N_T0_DQS_34, V5 IO_L3P_T0_DQS_34, V6 IO_L5N_T0_34, V7 IO_L5P_T0_34, V8 IO_L19P_T3_34, W1 IO_L7N_T1_34, W2 IO_L8P_T1_34, W3 IO_L10P_T1_34, W4 IO_L1N_T0_34, W5 IO_L1P_T0_34, W7 IO_L21P_T3_DQS_34, W8 IO_L19N_T3_VREF_34, Y1 IO_L8N_T1_34, Y3 IO_L10N_T1_34, Y4 IO_L15P_T2_DQS_34, Y5 IO_L14N_T2_SRCC_34, Y6 IO_L14P_T2_SRCC_34, Y7 IO_L21N_T3_DQS_34, Y8 IO_L20P_T3_34
part G pins: H2 IO_L1N_T0_AD4N_35, H3 IO_L2N_T0_AD12N_35, H4 IO_L2P_T0_AD12P_35, H5 IO_L5N_T0_AD13N_35, H6 IO_L5P_T0_AD13P_35, H7 IO_0_35, J1 IO_L3N_T0_DQS_AD5N_35, J2 IO_L3P_T0_DQS_AD5P_35, J3 IO_L1P_T0_AD4P_35, J5 VCCO_35, J6 IO_L6N_T0_VREF_35, J7 IO_L7N_T1_AD6N_35, J8 IO_L7P_T1_AD6P_35, K1 IO_L14N_T2_SRCC_35, K2 IO_L4N_T0_35, K3 IO_L4P_T0_35, K4 IO_L10N_T1_AD15N_35, K5 IO_L9N_T1_DQS_AD7N_35, K6 IO_L6P_T0_35, K8 IO_L11N_T1_SRCC_35, L1 IO_L14P_T2_SRCC_35, L2 VCCO_35, L4 IO_L10P_T1_AD15P_35, L5 IO_L9P_T1_DQS_AD7P_35, L6 IO_L8N_T1_AD14N_35, L7 IO_L8P_T1_AD14P_35, L8 IO_L11P_T1_SRCC_35, M1 IO_L15N_T2_DQS_35, M2 IO_L15P_T2_DQS_35, M3 IO_L13N_T2_MRCC_35, M4 IO_L13P_T2_MRCC_35, M5 IO_L20N_T3_35, M7 IO_L12N_T1_MRCC_35, M8 IO_L12P_T1_MRCC_35, N1 IO_L17N_T2_35, N3 IO_L16N_T2_35, N4 IO_L16P_T2_35, N5 IO_L20P_T3_35, N6 IO_L21N_T3_DQS_35, N7 IO_L22N_T3_35, N8 IO_L19N_T3_VREF_35, P1 IO_L17P_T2_35, P2 IO_L18N_T2_35, P3 IO_L18P_T2_35, P4 VCCO_35, P6 IO_L21P_T3_DQS_35, P7 IO_L22P_T3_35, P8 IO_L19P_T3_35, R3 IO_25_35, R4 IO_L24N_T3_35, R5 IO_L24P_T3_35, R6 IO_L23N_T3_35, R7 IO_L23P_T3_35
part H pins: A2 IO_L15N_T2_DQS_36, A3 IO_L14N_T2_SRCC_36, A4 IO_L14P_T2_SRCC_36, A5 IO_L13N_T2_MRCC_36, A6 IO_L4N_T0_36, A7 IO_L4P_T0_36, A9 IO_L1N_T0_36, A10 IO_L2N_T0_36, B1 IO_L17N_T2_36, B2 IO_L17P_T2_36, B3 IO_L15P_T2_DQS_36, B5 VCCO_36, B6 IO_L13P_T2_MRCC_36, B7 IO_L5N_T0_36, B8 IO_L5P_T0_36, B9 IO_L1P_T0_36, B10 IO_L2P_T0_36, C1 IO_L18N_T2_36, C2 IO_L18P_T2_36, C3 IO_L16N_T2_36, C4 IO_L16P_T2_36, C5 IO_L7N_T1_36, C6 IO_L7P_T1_36, C8 IO_L3N_T0_DQS_36, C9 IO_L3P_T0_DQS_36, D1 IO_L24N_T3_36, D2 IO_L23N_T3_36, D4 IO_L20N_T3_36, D5 IO_L8N_T1_36, D6 IO_L8P_T1_36, D7 IO_L6N_T0_VREF_36, D8 IO_L6P_T0_36, E1 IO_L21N_T3_DQS_36, E2 IO_L24P_T3_36, E3 IO_L23P_T3_36, E4 IO_L20P_T3_36, E5 IO_L10N_T1_36, E7 VCCO_36, E8 IO_0_36, F1 IO_L21P_T3_DQS_36, F3 VCCO_36, F4 IO_25_36, F5 IO_L10P_T1_36, F6 IO_L12N_T1_MRCC_36, F7 IO_L12P_T1_MRCC_36, F8 IO_L9N_T1_DQS_36, G1 IO_L22N_T3_36, G2 IO_L22P_T3_36, G3 IO_L19N_T3_VREF_36, G4 IO_L19P_T3_36, G6 IO_L11N_T1_SRCC_36, G7 IO_L11P_T1_SRCC_36, G8 IO_L9P_T1_DQS_36
part I pins: H9 VCCBRAM, H11 VCCINT, H13 VCCINT, J10 VCCINT, J12 VCCINT, J14 VCCAUX, K9 VCCBRAM, K13 VCCINT, L10 VCCINT, L14 VCCAUX, M9 VCCBRAM, M13 VCCINT, N10 VCCINT, N14 VCCAUX, P9 VCCBRAM, P11 VCCINT, P13 VCCINT, R10 VCCINT, R12 VCCINT, R14 VCCAUX
part J pins: A1 GND, A8 GND, A15 GND, A22 GND, AA5 GND, AA12 GND, AA19 GND, AB1 GND, AB8 GND, AB15 GND, AB22 GND, B4 GND, B11 GND, B18 GND, C7 GND, C14 GND, C21 GND, D3 GND, D10 GND, D17 GND, E6 GND, E13 GND, E20 GND, F2 GND, F9 GND, F16 GND, G5 GND, G12 GND, G19 GND, H1 GND, H8 GND, H10 GND, H12 GND, H14 GND, H15 GND, H22 GND, J4 GND, J9 GND, J11 GND, J13 GND, J18 GND, K7 GND, K10 GND, K14 GND, K21 GND, L3 GND, L9 GND, L13 GND, L17 GND, M6 GND, M10 GND, M14 GND, M20 GND, N2 GND, N9 GND, N13 GND, N16 GND, P5 GND, P10 GND, P12 GND, P14 GND, P19 GND, R1 GND, R8 GND, R9 GND, R11 GND, R13 GND, R15 GND, R22 GND, T4 GND, T18 GND, U7 GND, U14 GND, U21 GND, V3 GND, V10 GND, V17 GND, W6 GND, W13 GND, W20 GND, Y2 GND, Y9 GND, Y16 GND
part B text: BANK 13
part C text: BANK 14
part D text: BANK 15
part E text: BANK 16
part F text: BANK 34
part G text: BANK 35
part H text: BANK 36
part I text: POWER
part J text: GROUND

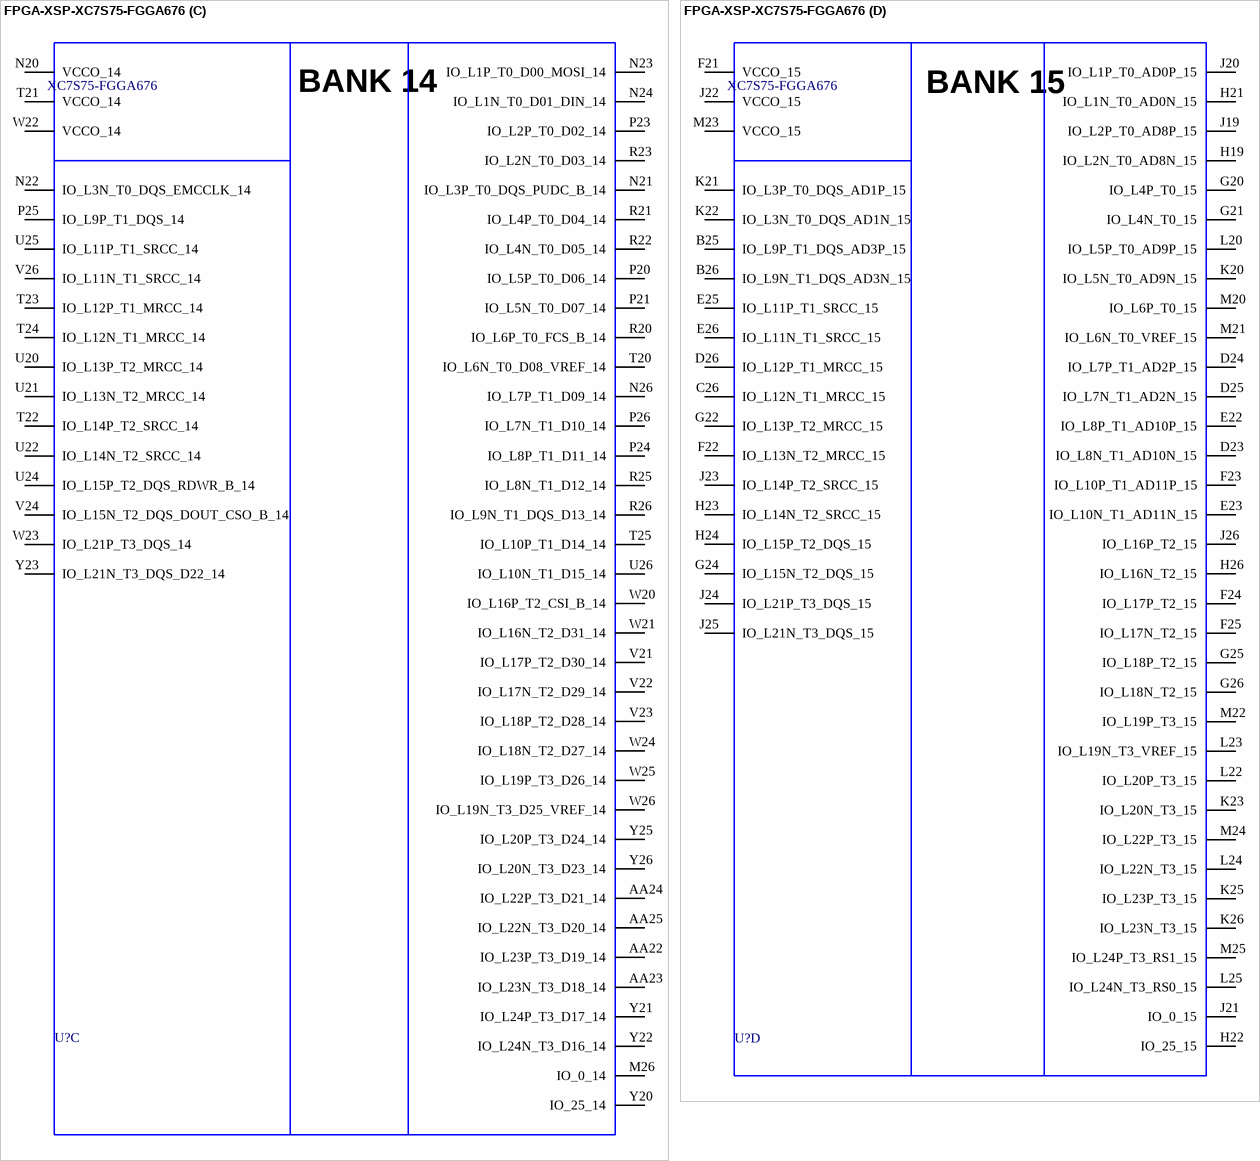
[diagram p8: symbol FPGA-XSP-XC7S75-FGGA676]

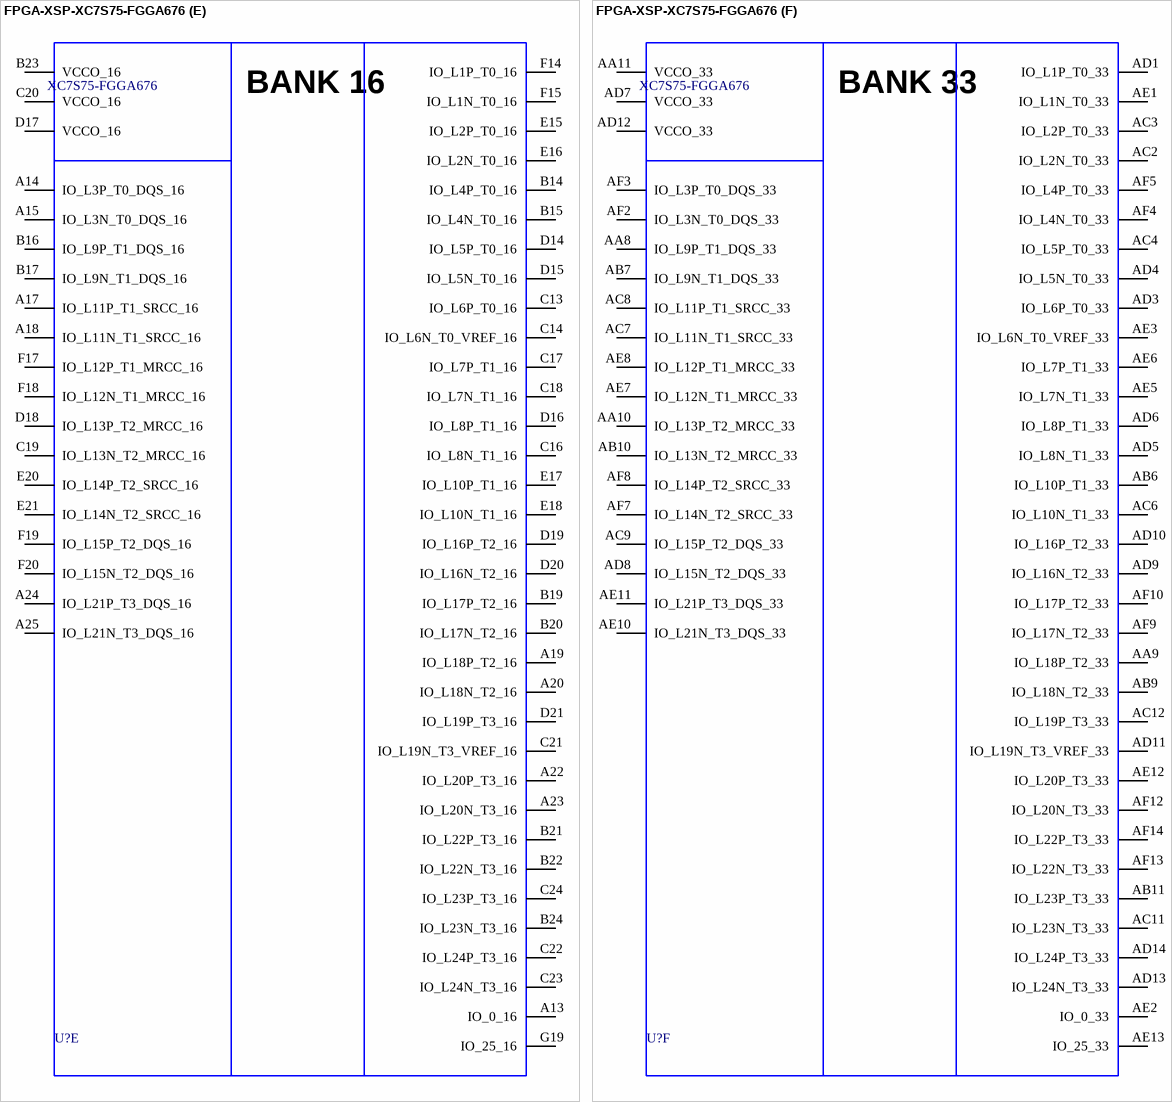
[diagram p9: symbol FPGA-XSP-XC7S75-FGGA676]

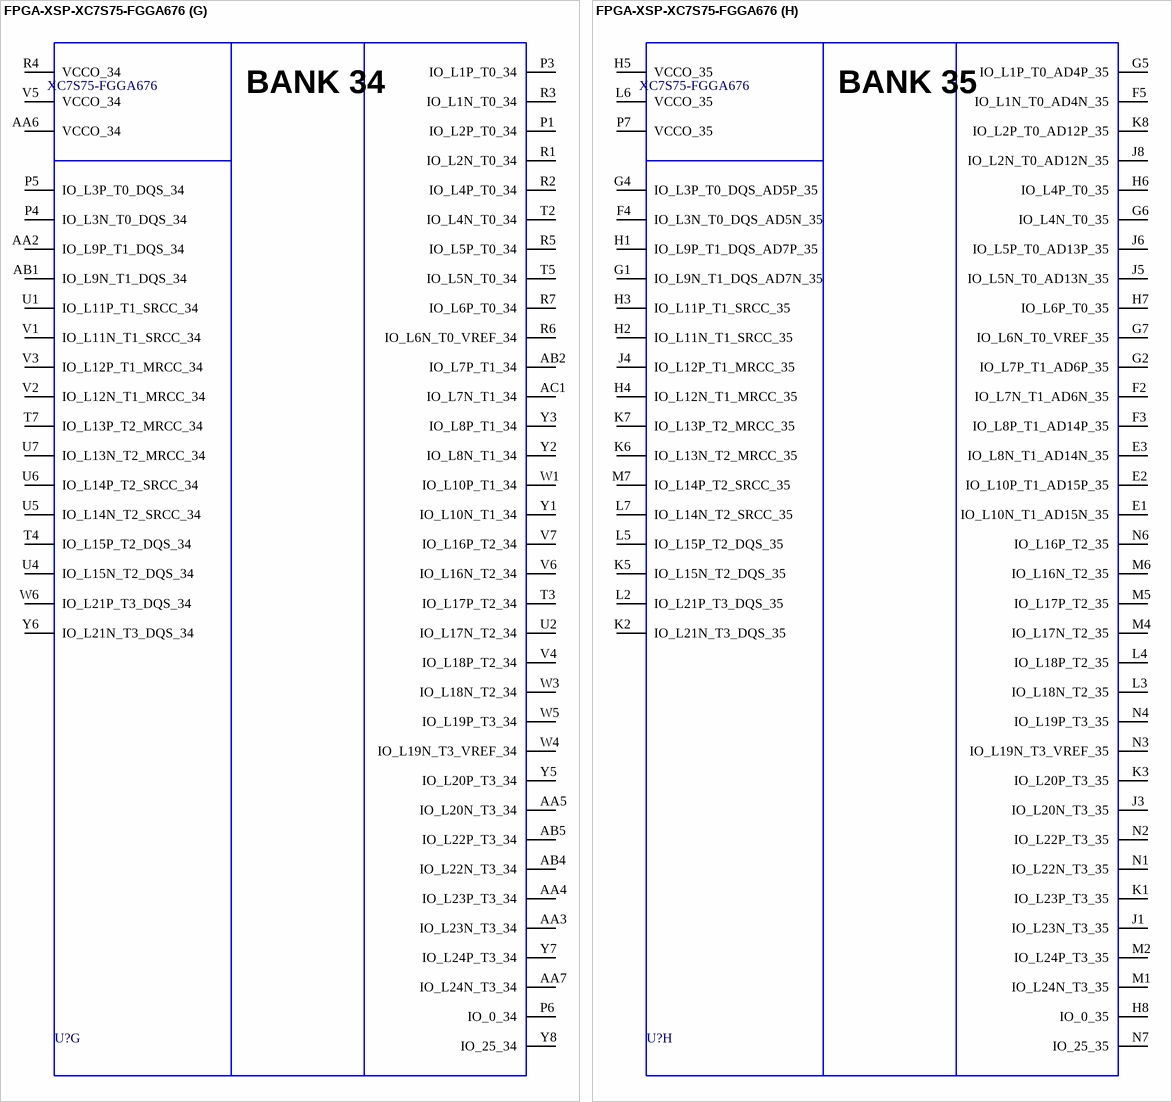
[diagram p10: symbol FPGA-XSP-XC7S75-FGGA676]

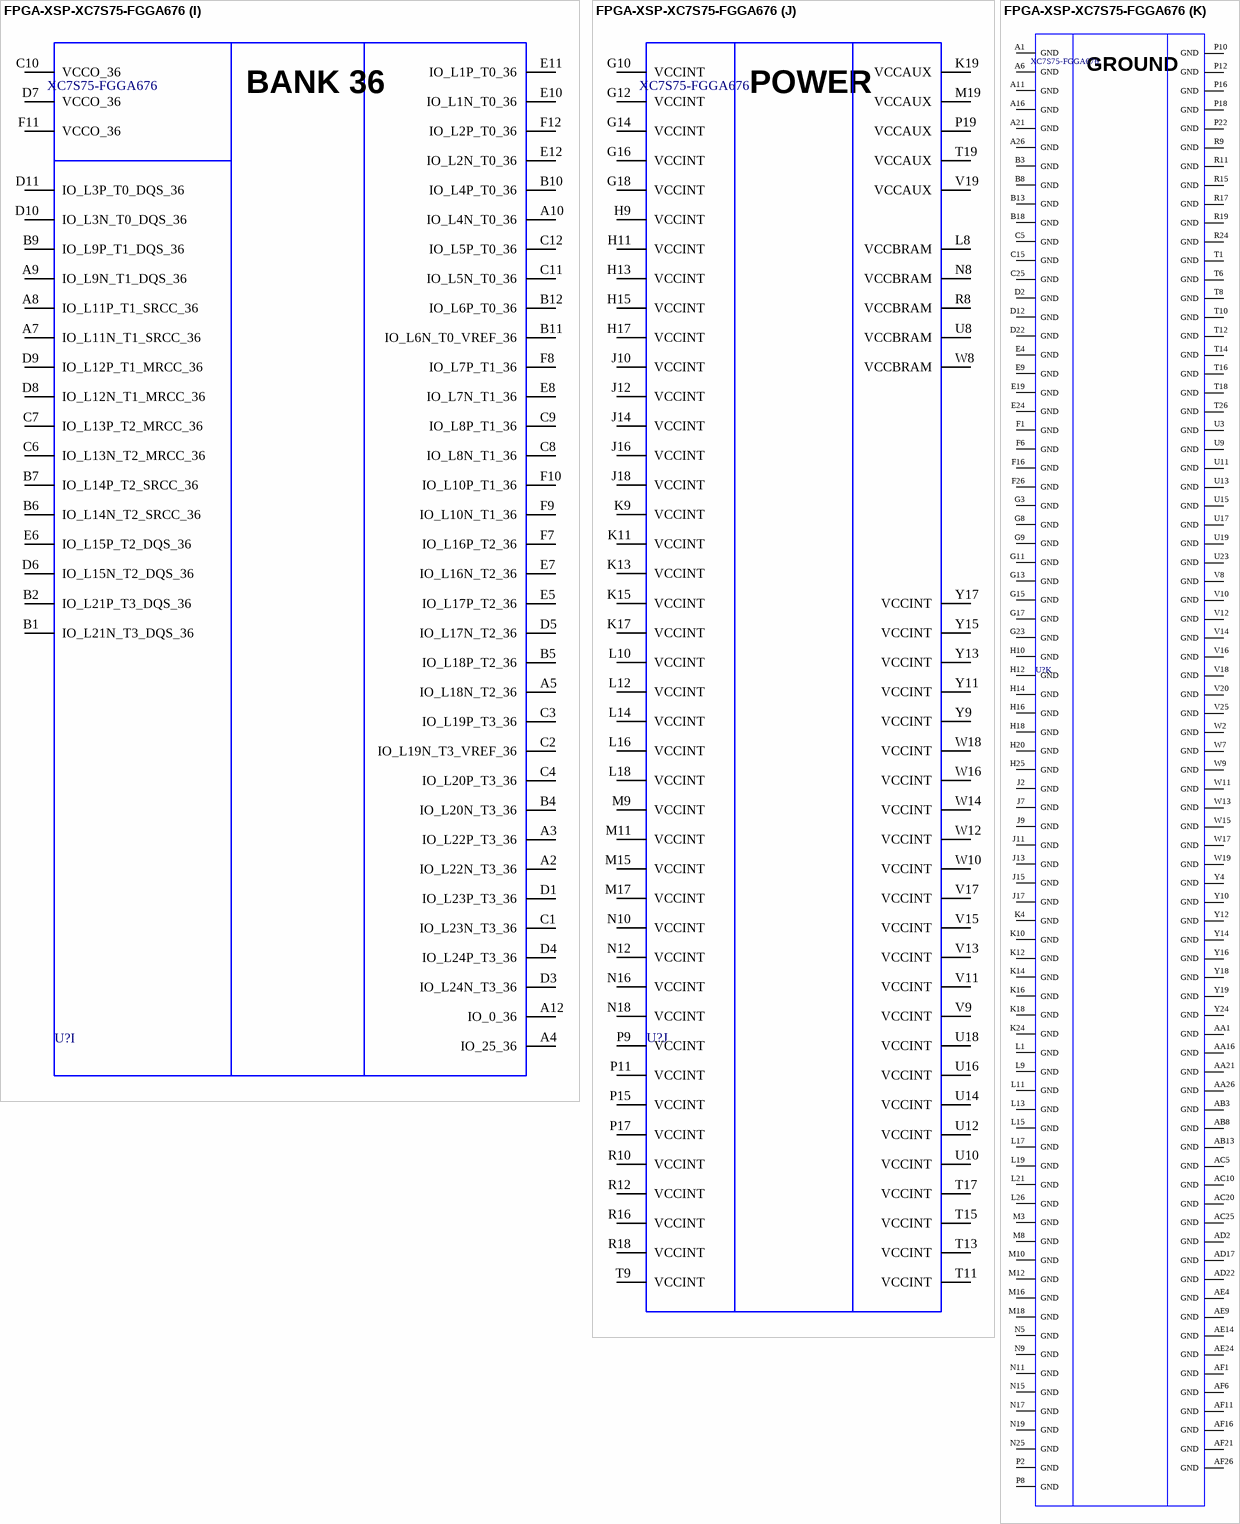
[diagram p11: symbol FPGA-XSP-XC7S75-FGGA676]

## FPGA-XSP-XC7S75-FGGA676
designator U?, comment XC7S75-FGGA676
Spartan-7, 400 User I/Os, 676-Ball Fine-Pitch BGA, Pb-Free; Manufacturer: Xilinx; Part: XC7S75-1FGGA676C; ComponentLink1Description: Manufacturer; ComponentLink2Description: Datasheet; ComponentLink3Description: Pin-out table; Family: Chip; ComponentLink1URL: *; ComponentLink2URL: *; ComponentLink3URL: http://www.xilinx.com/support/documentation/data_sheets/ds610.pdf; Manufacturer P/N: XC7S75-1FGGA676C; Value: XC7S75-FGGA676; PartNumber: *; Vender: *; ProductCode: *; StandartDoc: *; ВП Описание: *; Наименование: *; Описание: *
footprint FGG676 (BGA, 676-Leads, Body 27x27mm, Pitch 1mm)
part A pins: AA12 TDO_0, AA13 TMS_0, AA14 INIT_B_0, AA15 M2_0, AB12 TDI_0, AB14 CFGBVS_0, AB15 M1_0, AB16 M0_0, AC13 PROGRAM_B_0, AC14 DONE_0, AC15 VCCO_0, D13 VCCBATT_0, E13 TCK_0, E14 VCCO_0, F13 CCLK_0, M13 VCCADC_0, M14 GNDADC_0, N13 VREFN_0, N14 VP_0, P13 VN_0, P14 VREFP_0, R13 DXN_0, R14 DXP_0
part B pins: AA17 IO_L22P_T3_13, AA18 IO_L22N_T3_13, AA19 IO_L13P_T2_MRCC_13, AA20 IO_L9P_T1_DQS_13, AB17 IO_L19P_T3_13, AB18 VCCO_13, AB19 IO_L13N_T2_MRCC_13, AB20 IO_L9N_T1_DQS_13, AB21 IO_L11P_T1_SRCC_13, AB22 IO_L10P_T1_13, AB23 VCCO_13, AB24 IO_L2P_T0_13, AB25 IO_L2N_T0_13, AB26 IO_L1P_T0_13, AC16 IO_L21P_T3_DQS_13, AC17 IO_L19N_T3_VREF_13, AC18 IO_L18P_T2_13, AC19 IO_L16P_T2_13, AC21 IO_L11N_T1_SRCC_13, AC22 IO_L10N_T1_13, AC23 IO_L5P_T0_13, AC24 IO_L5N_T0_13, AC26 IO_L1N_T0_13, AD15 IO_L23P_T3_13, AD16 IO_L21N_T3_DQS_13, AD18 IO_L18N_T2_13, AD19 IO_L16N_T2_13, AD20 IO_L17P_T2_13, AD21 IO_L12P_T1_MRCC_13, AD23 IO_L7P_T1_13, AD24 IO_L4P_T0_13, AD25 IO_L4N_T0_13, AD26 IO_L3P_T0_DQS_13, AE15 IO_L24P_T3_13, AE16 IO_L23N_T3_13, AE17 IO_25_13, AE18 IO_L15P_T2_DQS_13, AE19 VCCO_13, AE20 IO_L14P_T2_SRCC_13, AE21 IO_L17N_T2_13, AE22 IO_L12N_T1_MRCC_13, AE23 IO_L7N_T1_13, AE25 IO_L6P_T0_13, AE26 IO_L3N_T0_DQS_13, AF15 IO_L24N_T3_13, AF17 IO_L20P_T3_13, AF18 IO_L20N_T3_13, AF19 IO_L15N_T2_DQS_13, AF20 IO_L14N_T2_SRCC_13, AF22 IO_L8P_T1_13, AF23 IO_L8N_T1_13, AF24 IO_0_13, AF25 IO_L6N_T0_VREF_13
part C pins: AA22 IO_L23P_T3_D19_14, AA23 IO_L23N_T3_D18_14, AA24 IO_L22P_T3_D21_14, AA25 IO_L22N_T3_D20_14, M26 IO_0_14, N20 VCCO_14, N21 IO_L3P_T0_DQS_PUDC_B_14, N22 IO_L3N_T0_DQS_EMCCLK_14, N23 IO_L1P_T0_D00_MOSI_14, N24 IO_L1N_T0_D01_DIN_14, N26 IO_L7P_T1_D09_14, P20 IO_L5P_T0_D06_14, P21 IO_L5N_T0_D07_14, P23 IO_L2P_T0_D02_14, P24 IO_L8P_T1_D11_14, P25 IO_L9P_T1_DQS_14, P26 IO_L7N_T1_D10_14, R20 IO_L6P_T0_FCS_B_14, R21 IO_L4P_T0_D04_14, R22 IO_L4N_T0_D05_14, R23 IO_L2N_T0_D03_14, R25 IO_L8N_T1_D12_14, R26 IO_L9N_T1_DQS_D13_14, T20 IO_L6N_T0_D08_VREF_14, T21 VCCO_14, T22 IO_L14P_T2_SRCC_14, T23 IO_L12P_T1_MRCC_14, T24 IO_L12N_T1_MRCC_14, T25 IO_L10P_T1_D14_14, U20 IO_L13P_T2_MRCC_14, U21 IO_L13N_T2_MRCC_14, U22 IO_L14N_T2_SRCC_14, U24 IO_L15P_T2_DQS_RDWR_B_14, U25 IO_L11P_T1_SRCC_14, U26 IO_L10N_T1_D15_14, V21 IO_L17P_T2_D30_14, V22 IO_L17N_T2_D29_14, V23 IO_L18P_T2_D28_14, V24 IO_L15N_T2_DQS_DOUT_CSO_B_14, V26 IO_L11N_T1_SRCC_14, W20 IO_L16P_T2_CSI_B_14, W21 IO_L16N_T2_D31_14, W22 VCCO_14, W23 IO_L21P_T3_DQS_14, W24 IO_L18N_T2_D27_14, W25 IO_L19P_T3_D26_14, W26 IO_L19N_T3_D25_VREF_14, Y20 IO_25_14, Y21 IO_L24P_T3_D17_14, Y22 IO_L24N_T3_D16_14, Y23 IO_L21N_T3_DQS_D22_14, Y25 IO_L20P_T3_D24_14, Y26 IO_L20N_T3_D23_14
part D pins: B25 IO_L9P_T1_DQS_AD3P_15, B26 IO_L9N_T1_DQS_AD3N_15, C26 IO_L12N_T1_MRCC_15, D23 IO_L8N_T1_AD10N_15, D24 IO_L7P_T1_AD2P_15, D25 IO_L7N_T1_AD2N_15, D26 IO_L12P_T1_MRCC_15, E22 IO_L8P_T1_AD10P_15, E23 IO_L10N_T1_AD11N_15, E25 IO_L11P_T1_SRCC_15, E26 IO_L11N_T1_SRCC_15, F21 VCCO_15, F22 IO_L13N_T2_MRCC_15, F23 IO_L10P_T1_AD11P_15, F24 IO_L17P_T2_15, F25 IO_L17N_T2_15, G20 IO_L4P_T0_15, G21 IO_L4N_T0_15, G22 IO_L13P_T2_MRCC_15, G24 IO_L15N_T2_DQS_15, G25 IO_L18P_T2_15, G26 IO_L18N_T2_15, H19 IO_L2N_T0_AD8N_15, H21 IO_L1N_T0_AD0N_15, H22 IO_25_15, H23 IO_L14N_T2_SRCC_15, H24 IO_L15P_T2_DQS_15, H26 IO_L16N_T2_15, J19 IO_L2P_T0_AD8P_15, J20 IO_L1P_T0_AD0P_15, J21 IO_0_15, J22 VCCO_15, J23 IO_L14P_T2_SRCC_15, J24 IO_L21P_T3_DQS_15, J25 IO_L21N_T3_DQS_15, J26 IO_L16P_T2_15, K20 IO_L5N_T0_AD9N_15, K21 IO_L3P_T0_DQS_AD1P_15, K22 IO_L3N_T0_DQS_AD1N_15, K23 IO_L20N_T3_15, K25 IO_L23P_T3_15, K26 IO_L23N_T3_15, L20 IO_L5P_T0_AD9P_15, L22 IO_L20P_T3_15, L23 IO_L19N_T3_VREF_15, L24 IO_L22N_T3_15, L25 IO_L24N_T3_RS0_15, M20 IO_L6P_T0_15, M21 IO_L6N_T0_VREF_15, M22 IO_L19P_T3_15, M23 VCCO_15, M24 IO_L22P_T3_15, M25 IO_L24P_T3_RS1_15
part E pins: A13 IO_0_16, A14 IO_L3P_T0_DQS_16, A15 IO_L3N_T0_DQS_16, A17 IO_L11P_T1_SRCC_16, A18 IO_L11N_T1_SRCC_16, A19 IO_L18P_T2_16, A20 IO_L18N_T2_16, A22 IO_L20P_T3_16, A23 IO_L20N_T3_16, A24 IO_L21P_T3_DQS_16, A25 IO_L21N_T3_DQS_16, B14 IO_L4P_T0_16, B15 IO_L4N_T0_16, B16 IO_L9P_T1_DQS_16, B17 IO_L9N_T1_DQS_16, B19 IO_L17P_T2_16, B20 IO_L17N_T2_16, B21 IO_L22P_T3_16, B22 IO_L22N_T3_16, B23 VCCO_16, B24 IO_L23N_T3_16, C13 IO_L6P_T0_16, C14 IO_L6N_T0_VREF_16, C16 IO_L8N_T1_16, C17 IO_L7P_T1_16, C18 IO_L7N_T1_16, C19 IO_L13N_T2_MRCC_16, C20 VCCO_16, C21 IO_L19N_T3_VREF_16, C22 IO_L24P_T3_16, C23 IO_L24N_T3_16, C24 IO_L23P_T3_16, D14 IO_L5P_T0_16, D15 IO_L5N_T0_16, D16 IO_L8P_T1_16, D17 VCCO_16, D18 IO_L13P_T2_MRCC_16, D19 IO_L16P_T2_16, D20 IO_L16N_T2_16, D21 IO_L19P_T3_16, E15 IO_L2P_T0_16, E16 IO_L2N_T0_16, E17 IO_L10P_T1_16, E18 IO_L10N_T1_16, E20 IO_L14P_T2_SRCC_16, E21 IO_L14N_T2_SRCC_16, F14 IO_L1P_T0_16, F15 IO_L1N_T0_16, F17 IO_L12P_T1_MRCC_16, F18 IO_L12N_T1_MRCC_16, F19 IO_L15P_T2_DQS_16, F20 IO_L15N_T2_DQS_16, G19 IO_25_16
part F pins: AA8 IO_L9P_T1_DQS_33, AA9 IO_L18P_T2_33, AA10 IO_L13P_T2_MRCC_33, AA11 VCCO_33, AB6 IO_L10P_T1_33, AB7 IO_L9N_T1_DQS_33, AB9 IO_L18N_T2_33, AB10 IO_L13N_T2_MRCC_33, AB11 IO_L23P_T3_33, AC2 IO_L2N_T0_33, AC3 IO_L2P_T0_33, AC4 IO_L5P_T0_33, AC6 IO_L10N_T1_33, AC7 IO_L11N_T1_SRCC_33, AC8 IO_L11P_T1_SRCC_33, AC9 IO_L15P_T2_DQS_33, AC11 IO_L23N_T3_33, AC12 IO_L19P_T3_33, AD1 IO_L1P_T0_33, AD3 IO_L6P_T0_33, AD4 IO_L5N_T0_33, AD5 IO_L8N_T1_33, AD6 IO_L8P_T1_33, AD7 VCCO_33, AD8 IO_L15N_T2_DQS_33, AD9 IO_L16N_T2_33, AD10 IO_L16P_T2_33, AD11 IO_L19N_T3_VREF_33, AD12 VCCO_33, AD13 IO_L24N_T3_33, AD14 IO_L24P_T3_33, AE1 IO_L1N_T0_33, AE2 IO_0_33, AE3 IO_L6N_T0_VREF_33, AE5 IO_L7N_T1_33, AE6 IO_L7P_T1_33, AE7 IO_L12N_T1_MRCC_33, AE8 IO_L12P_T1_MRCC_33, AE10 IO_L21N_T3_DQS_33, AE11 IO_L21P_T3_DQS_33, AE12 IO_L20P_T3_33, AE13 IO_25_33, AF2 IO_L3N_T0_DQS_33, AF3 IO_L3P_T0_DQS_33, AF4 IO_L4N_T0_33, AF5 IO_L4P_T0_33, AF7 IO_L14N_T2_SRCC_33, AF8 IO_L14P_T2_SRCC_33, AF9 IO_L17N_T2_33, AF10 IO_L17P_T2_33, AF12 IO_L20N_T3_33, AF13 IO_L22N_T3_33, AF14 IO_L22P_T3_33
part G pins: AA2 IO_L9P_T1_DQS_34, AA3 IO_L23N_T3_34, AA4 IO_L23P_T3_34, AA5 IO_L20N_T3_34, AA6 VCCO_34, AA7 IO_L24N_T3_34, AB1 IO_L9N_T1_DQS_34, AB2 IO_L7P_T1_34, AB4 IO_L22N_T3_34, AB5 IO_L22P_T3_34, AC1 IO_L7N_T1_34, P1 IO_L2P_T0_34, P3 IO_L1P_T0_34, P4 IO_L3N_T0_DQS_34, P5 IO_L3P_T0_DQS_34, P6 IO_0_34, R1 IO_L2N_T0_34, R2 IO_L4P_T0_34, R3 IO_L1N_T0_34, R4 VCCO_34, R5 IO_L5P_T0_34, R6 IO_L6N_T0_VREF_34, R7 IO_L6P_T0_34, T2 IO_L4N_T0_34, T3 IO_L17P_T2_34, T4 IO_L15P_T2_DQS_34, T5 IO_L5N_T0_34, T7 IO_L13P_T2_MRCC_34, U1 IO_L11P_T1_SRCC_34, U2 IO_L17N_T2_34, U4 IO_L15N_T2_DQS_34, U5 IO_L14N_T2_SRCC_34, U6 IO_L14P_T2_SRCC_34, U7 IO_L13N_T2_MRCC_34, V1 IO_L11N_T1_SRCC_34, V2 IO_L12N_T1_MRCC_34, V3 IO_L12P_T1_MRCC_34, V4 IO_L18P_T2_34, V5 VCCO_34, V6 IO_L16N_T2_34, V7 IO_L16P_T2_34, W1 IO_L10P_T1_34, W3 IO_L18N_T2_34, W4 IO_L19N_T3_VREF_34, W5 IO_L19P_T3_34, W6 IO_L21P_T3_DQS_34, Y1 IO_L10N_T1_34, Y2 IO_L8N_T1_34, Y3 IO_L8P_T1_34, Y5 IO_L20P_T3_34, Y6 IO_L21N_T3_DQS_34, Y7 IO_L24P_T3_34, Y8 IO_25_34
part H pins: E1 IO_L10N_T1_AD15N_35, E2 IO_L10P_T1_AD15P_35, E3 IO_L8N_T1_AD14N_35, F2 IO_L7N_T1_AD6N_35, F3 IO_L8P_T1_AD14P_35, F4 IO_L3N_T0_DQS_AD5N_35, F5 IO_L1N_T0_AD4N_35, G1 IO_L9N_T1_DQS_AD7N_35, G2 IO_L7P_T1_AD6P_35, G4 IO_L3P_T0_DQS_AD5P_35, G5 IO_L1P_T0_AD4P_35, G6 IO_L4N_T0_35, G7 IO_L6N_T0_VREF_35, H1 IO_L9P_T1_DQS_AD7P_35, H2 IO_L11N_T1_SRCC_35, H3 IO_L11P_T1_SRCC_35, H4 IO_L12N_T1_MRCC_35, H5 VCCO_35, H6 IO_L4P_T0_35, H7 IO_L6P_T0_35, H8 IO_0_35, J1 IO_L23N_T3_35, J3 IO_L20N_T3_35, J4 IO_L12P_T1_MRCC_35, J5 IO_L5N_T0_AD13N_35, J6 IO_L5P_T0_AD13P_35, J8 IO_L2N_T0_AD12N_35, K1 IO_L23P_T3_35, K2 IO_L21N_T3_DQS_35, K3 IO_L20P_T3_35, K5 IO_L15N_T2_DQS_35, K6 IO_L13N_T2_MRCC_35, K7 IO_L13P_T2_MRCC_35, K8 IO_L2P_T0_AD12P_35, L2 IO_L21P_T3_DQS_35, L3 IO_L18N_T2_35, L4 IO_L18P_T2_35, L5 IO_L15P_T2_DQS_35, L6 VCCO_35, L7 IO_L14N_T2_SRCC_35, M1 IO_L24N_T3_35, M2 IO_L24P_T3_35, M4 IO_L17N_T2_35, M5 IO_L17P_T2_35, M6 IO_L16N_T2_35, M7 IO_L14P_T2_SRCC_35, N1 IO_L22N_T3_35, N2 IO_L22P_T3_35, N3 IO_L19N_T3_VREF_35, N4 IO_L19P_T3_35, N6 IO_L16P_T2_35, N7 IO_25_35, P7 VCCO_35
part I pins: A2 IO_L22N_T3_36, A3 IO_L22P_T3_36, A4 IO_25_36, A5 IO_L18N_T2_36, A7 IO_L11N_T1_SRCC_36, A8 IO_L11P_T1_SRCC_36, A9 IO_L9N_T1_DQS_36, A10 IO_L4N_T0_36, A12 IO_0_36, B1 IO_L21N_T3_DQS_36, B2 IO_L21P_T3_DQS_36, B4 IO_L20N_T3_36, B5 IO_L18P_T2_36, B6 IO_L14N_T2_SRCC_36, B7 IO_L14P_T2_SRCC_36, B9 IO_L9P_T1_DQS_36, B10 IO_L4P_T0_36, B11 IO_L6N_T0_VREF_36, B12 IO_L6P_T0_36, C1 IO_L23N_T3_36, C2 IO_L19N_T3_VREF_36, C3 IO_L19P_T3_36, C4 IO_L20P_T3_36, C6 IO_L13N_T2_MRCC_36, C7 IO_L13P_T2_MRCC_36, C8 IO_L8N_T1_36, C9 IO_L8P_T1_36, C10 VCCO_36, C11 IO_L5N_T0_36, C12 IO_L5P_T0_36, D1 IO_L23P_T3_36, D3 IO_L24N_T3_36, D4 IO_L24P_T3_36, D5 IO_L17N_T2_36, D6 IO_L15N_T2_DQS_36, D7 VCCO_36, D8 IO_L12N_T1_MRCC_36, D9 IO_L12P_T1_MRCC_36, D10 IO_L3N_T0_DQS_36, D11 IO_L3P_T0_DQS_36, E5 IO_L17P_T2_36, E6 IO_L15P_T2_DQS_36, E7 IO_L16N_T2_36, E8 IO_L7N_T1_36, E10 IO_L1N_T0_36, E11 IO_L1P_T0_36, E12 IO_L2N_T0_36, F7 IO_L16P_T2_36, F8 IO_L7P_T1_36, F9 IO_L10N_T1_36, F10 IO_L10P_T1_36, F11 VCCO_36, F12 IO_L2P_T0_36
part J pins: G10 VCCINT, G12 VCCINT, G14 VCCINT, G16 VCCINT, G18 VCCINT, H9 VCCINT, H11 VCCINT, H13 VCCINT, H15 VCCINT, H17 VCCINT, J10 VCCINT, J12 VCCINT, J14 VCCINT, J16 VCCINT, J18 VCCINT, K9 VCCINT, K11 VCCINT, K13 VCCINT, K15 VCCINT, K17 VCCINT, K19 VCCAUX, L8 VCCBRAM, L10 VCCINT, L12 VCCINT, L14 VCCINT, L16 VCCINT, L18 VCCINT, M9 VCCINT, M11 VCCINT, M15 VCCINT, M17 VCCINT, M19 VCCAUX, N8 VCCBRAM, N10 VCCINT, N12 VCCINT, N16 VCCINT, N18 VCCINT, P9 VCCINT, P11 VCCINT, P15 VCCINT, P17 VCCINT, P19 VCCAUX, R8 VCCBRAM, R10 VCCINT, R12 VCCINT, R16 VCCINT, R18 VCCINT, T9 VCCINT, T11 VCCINT, T13 VCCINT, T15 VCCINT, T17 VCCINT, T19 VCCAUX, U8 VCCBRAM, U10 VCCINT, U12 VCCINT, U14 VCCINT, U16 VCCINT, U18 VCCINT, V9 VCCINT, V11 VCCINT, V13 VCCINT, V15 VCCINT, V17 VCCINT, V19 VCCAUX, W8 VCCBRAM, W10 VCCINT, W12 VCCINT, W14 VCCINT, W16 VCCINT, W18 VCCINT, Y9 VCCINT, Y11 VCCINT, Y13 VCCINT, Y15 VCCINT, Y17 VCCINT
part K pins: A1 GND, A6 GND, A11 GND, A16 GND, A21 GND, A26 GND, AA1 GND, AA16 GND, AA21 GND, AA26 GND, AB3 GND, AB8 GND, AB13 GND, AC5 GND, AC10 GND, AC20 GND, AC25 GND, AD2 GND, AD17 GND, AD22 GND, AE4 GND, AE9 GND, AE14 GND, AE24 GND, AF1 GND, AF6 GND, AF11 GND, AF16 GND, AF21 GND, AF26 GND, B3 GND, B8 GND, B13 GND, B18 GND, C5 GND, C15 GND, C25 GND, D2 GND, D12 GND, D22 GND, E4 GND, E9 GND, E19 GND, E24 GND, F1 GND, F6 GND, F16 GND, F26 GND, G3 GND, G8 GND, G9 GND, G11 GND, G13 GND, G15 GND, G17 GND, G23 GND, H10 GND, H12 GND, H14 GND, H16 GND, H18 GND, H20 GND, H25 GND, J2 GND, J7 GND, J9 GND, J11 GND, J13 GND, J15 GND, J17 GND, K4 GND, K10 GND, K12 GND, K14 GND, K16 GND, K18 GND, K24 GND, L1 GND, L9 GND, L11 GND, L13 GND, L15 GND, L17 GND, L19 GND, L21 GND, L26 GND, M3 GND, M8 GND, M10 GND, M12 GND, M16 GND, M18 GND, N5 GND, N9 GND, N11 GND, N15 GND, N17 GND, N19 GND, N25 GND, P2 GND, P8 GND, P10 GND, P12 GND, P16 GND, P18 GND, P22 GND, R9 GND, R11 GND, R15 GND, R17 GND, R19 GND, R24 GND, T1 GND, T6 GND, T8 GND, T10 GND, T12 GND, T14 GND, T16 GND, T18 GND, T26 GND, U3 GND, U9 GND, U11 GND, U13 GND, U15 GND, U17 GND, U19 GND, U23 GND, V8 GND, V10 GND, V12 GND, V14 GND, V16 GND, V18 GND, V20 GND, V25 GND, W2 GND, W7 GND, W9 GND, W11 GND, W13 GND, W15 GND, W17 GND, W19 GND, Y4 GND, Y10 GND, Y12 GND, Y14 GND, Y16 GND, Y18 GND, Y19 GND, Y24 GND
part B text: BANK 13
part C text: BANK 14
part D text: BANK 15
part E text: BANK 16
part F text: BANK 33
part G text: BANK 34
part H text: BANK 35
part I text: BANK 36
part J text: POWER
part K text: GROUND

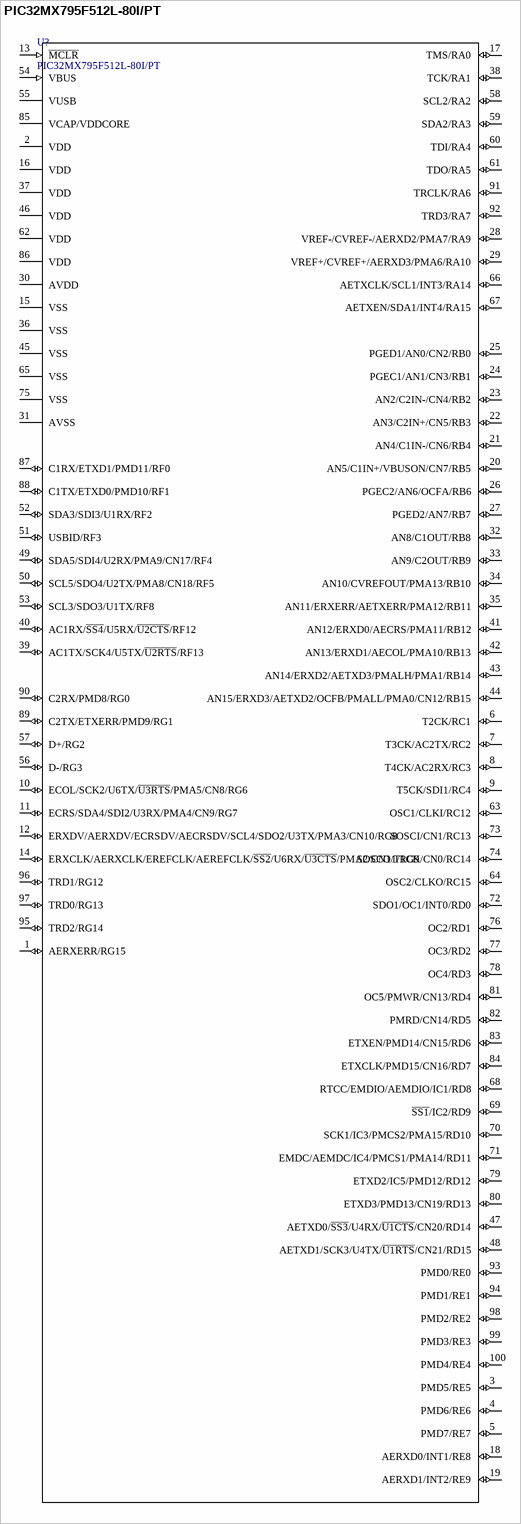
[diagram p12: symbol PIC32MX795F512L-80I/PT]

## PIC32MX795F512L-80I/PT
designator U?
High Performance 80 MHz MIPS-Based 32-Bit Flash Microcontroller with USB, CAN and Ethernet, 512KB Program Memory, 100-pin TQFP; Manufacturer: Microchip; ComponentLink1Description: Manufacturer; ComponentLink1URL: http://www.microchip.com/; ComponentLink2Description: Datasheet; ComponentLink2URL: http://ww1.microchip.com/downloads/en/DeviceDoc/61156G.pdf; Manufacturer P/N: PIC32MX795F512L-80I/PT; Part: PIC32MX795F512L-80I/PT; Family: Chip
footprint TQFP-PT100_L (Thin QFP, 100-Leads, Body 12x12mm, Pitch 0.4mm, IPC High Density)
footprint TQFP-PT100_M (Thin QFP, 100-Leads, Body 12x12mm, Pitch 0.4mm, IPC Low Density)
footprint TQFP-PT100_N (Thin QFP, 100-Leads, Body 12x12mm, Pitch 0.4mm, IPC Medium Density)
pins: 1 AERXERR/RG15 (io), 2 VDD (power), 3 PMD5/RE5 (io), 4 PMD6/RE6 (io), 5 PMD7/RE7 (io), 6 T2CK/RC1 (io), 7 T3CK/AC2TX/RC2 (io), 8 T4CK/AC2RX/RC3 (io), 9 T5CK/SDI1/RC4 (io), 10 ECOL/SCK2/U6TX/~{U3RTS}/PMA5/CN8/RG6 (io), 11 ECRS/SDA4/SDI2/U3RX/PMA4/CN9/RG7 (io), 12 ERXDV/AERXDV/ECRSDV/AECRSDV/SCL4/SDO2/U3TX/PMA3/CN10/RG8 (io), 13 ~{MCLR} (in), 14 ERXCLK/AERXCLK/EREFCLK/AEREFCLK/~{SS2}/U6RX/~{U3CTS}/PMA2/CN11/RG9 (io), 15 VSS (power), 16 VDD (power), 17 TMS/RA0 (io), 18 AERXD0/INT1/RE8 (io), 19 AERXD1/INT2/RE9 (io), 20 AN5/C1IN+/VBUSON/CN7/RB5 (io), 21 AN4/C1IN-/CN6/RB4 (io), 22 AN3/C2IN+/CN5/RB3 (io), 23 AN2/C2IN-/CN4/RB2 (io), 24 PGEC1/AN1/CN3/RB1 (io), 25 PGED1/AN0/CN2/RB0 (io), 26 PGEC2/AN6/OCFA/RB6 (io), 27 PGED2/AN7/RB7 (io), 28 VREF-/CVREF-/AERXD2/PMA7/RA9 (io), 29 VREF+/CVREF+/AERXD3/PMA6/RA10 (io), 30 AVDD (power), 31 AVSS (power), 32 AN8/C1OUT/RB8 (io), 33 AN9/C2OUT/RB9 (io), 34 AN10/CVREFOUT/PMA13/RB10 (io), 35 AN11/ERXERR/AETXERR/PMA12/RB11 (io), 36 VSS (power), 37 VDD (power), 38 TCK/RA1 (io), 39 AC1TX/SCK4/U5TX/~{U2RTS}/RF13 (io), 40 AC1RX/~{SS4}/U5RX/~{U2CTS}/RF12 (io), 41 AN12/ERXD0/AECRS/PMA11/RB12 (io), 42 AN13/ERXD1/AECOL/PMA10/RB13 (io), 43 AN14/ERXD2/AETXD3/PMALH/PMA1/RB14 (io), 44 AN15/ERXD3/AETXD2/OCFB/PMALL/PMA0/CN12/RB15 (io), 45 VSS (power), 46 VDD (power), 47 AETXD0/~{SS3}/U4RX/~{U1CTS}/CN20/RD14 (io), 48 AETXD1/SCK3/U4TX/~{U1RTS}/CN21/RD15 (io), 49 SDA5/SDI4/U2RX/PMA9/CN17/RF4 (io), 50 SCL5/SDO4/U2TX/PMA8/CN18/RF5 (io), 51 USBID/RF3 (io), 52 SDA3/SDI3/U1RX/RF2 (io), 53 SCL3/SDO3/U1TX/RF8 (io), 54 VBUS (in), 55 VUSB (power), 56 D-/RG3 (io), 57 D+/RG2 (io), 58 SCL2/RA2 (io), 59 SDA2/RA3 (io), 60 TDI/RA4 (io), 61 TDO/RA5 (io), 62 VDD (power), 63 OSC1/CLKI/RC12 (io), 64 OSC2/CLKO/RC15 (io), 65 VSS (power), 66 AETXCLK/SCL1/INT3/RA14 (io), 67 AETXEN/SDA1/INT4/RA15 (io), 68 RTCC/EMDIO/AEMDIO/IC1/RD8 (io), 69 ~{SS1}/IC2/RD9 (io), 70 SCK1/IC3/PMCS2/PMA15/RD10 (io), 71 EMDC/AEMDC/IC4/PMCS1/PMA14/RD11 (io), 72 SDO1/OC1/INT0/RD0 (io), 73 SOSCI/CN1/RC13 (io), 74 SOSCO/T1CK/CN0/RC14 (io), 75 VSS (power), 76 OC2/RD1 (io), 77 OC3/RD2 (io), 78 OC4/RD3 (io), 79 ETXD2/IC5/PMD12/RD12 (io), 80 ETXD3/PMD13/CN19/RD13 (io), 81 OC5/PMWR/CN13/RD4 (io), 82 PMRD/CN14/RD5 (io), 83 ETXEN/PMD14/CN15/RD6 (io), 84 ETXCLK/PMD15/CN16/RD7 (io), 85 VCAP/VDDCORE (power), 86 VDD (power), 87 C1RX/ETXD1/PMD11/RF0 (io), 88 C1TX/ETXD0/PMD10/RF1 (io), 89 C2TX/ETXERR/PMD9/RG1 (io), 90 C2RX/PMD8/RG0 (io), 91 TRCLK/RA6 (io), 92 TRD3/RA7 (io), 93 PMD0/RE0 (io), 94 PMD1/RE1 (io), 95 TRD2/RG14 (io), 96 TRD1/RG12 (io), 97 TRD0/RG13 (io), 98 PMD2/RE2 (io), 99 PMD3/RE3 (io), 100 PMD4/RE4 (io)